# Altium integrated library Altera APEX 20KE.IntLib: 235 symbols (part 3 of 49)
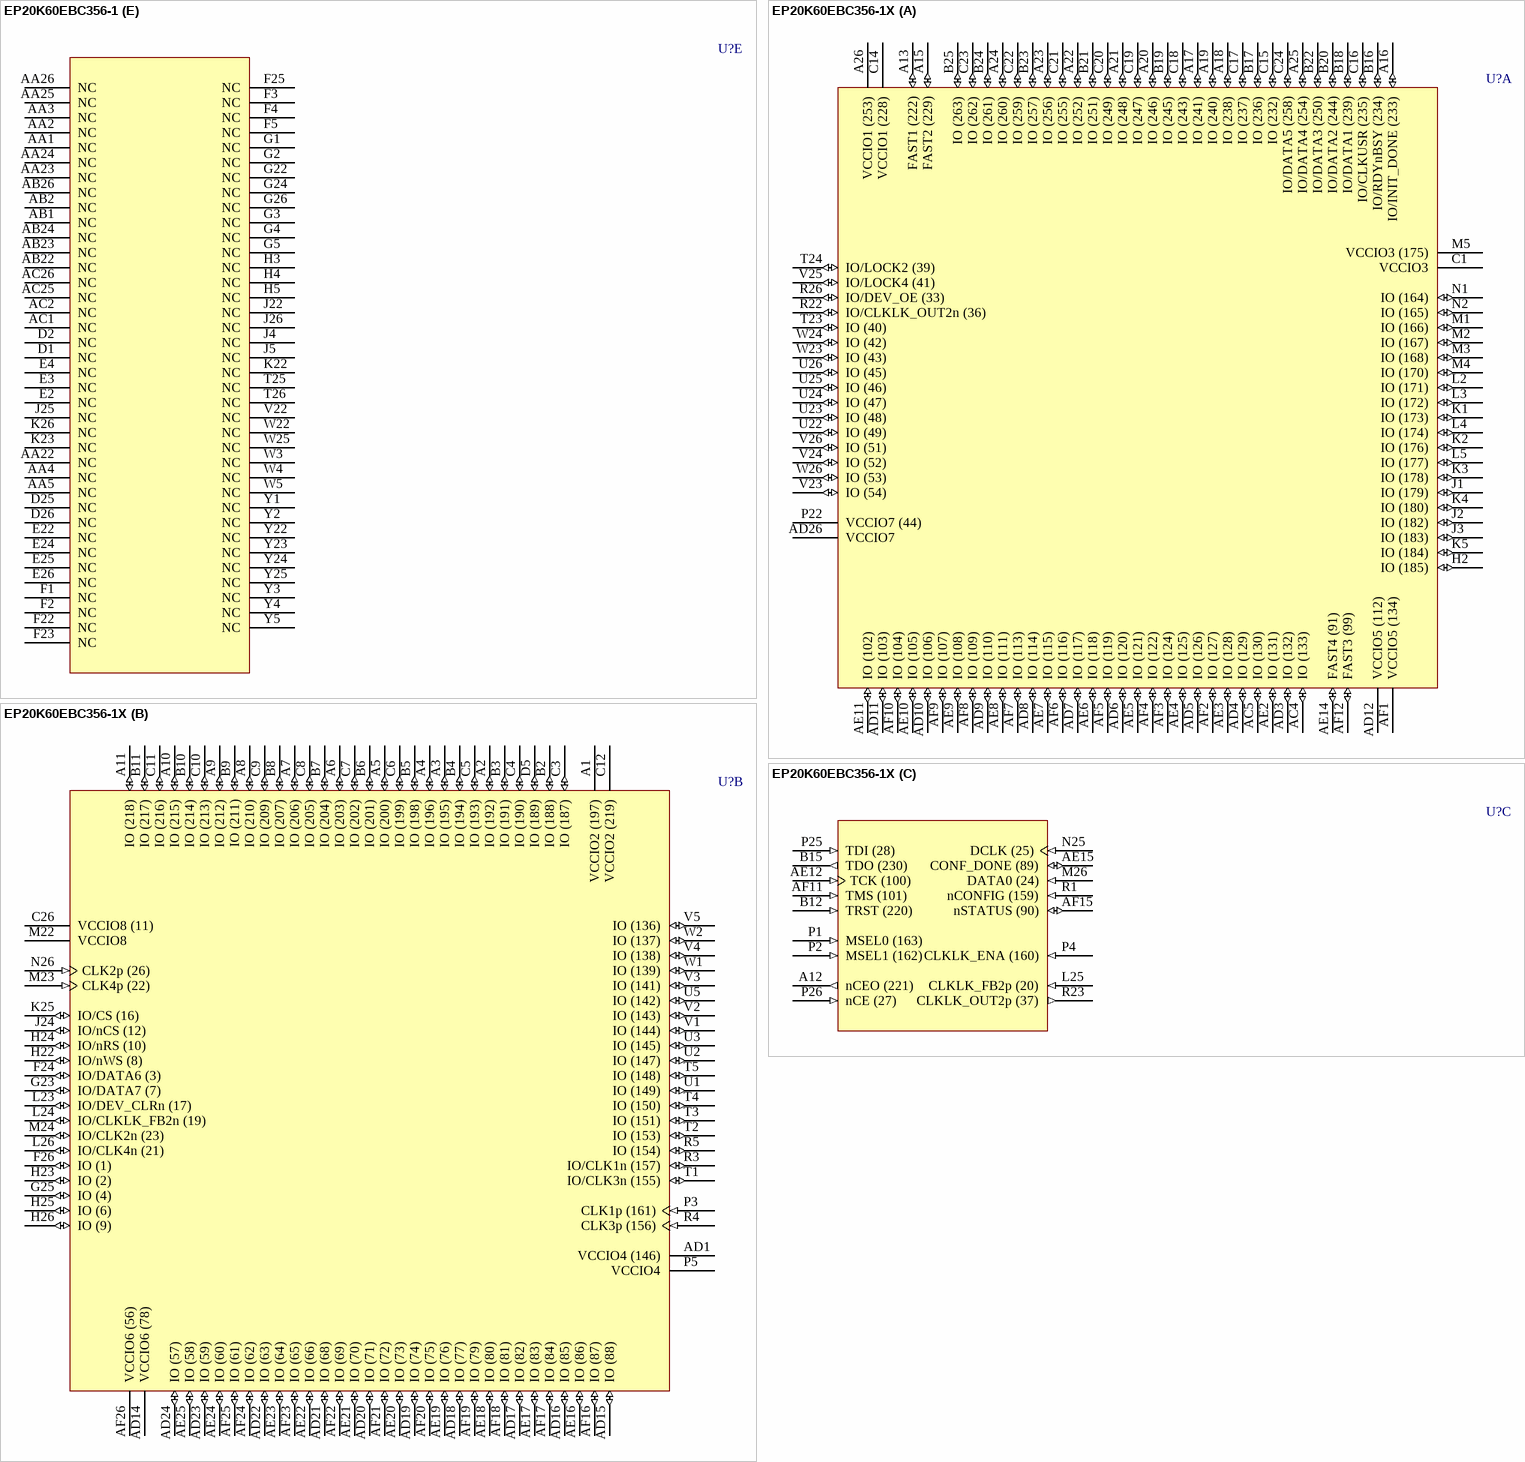
[diagram p401: symbols EP20K60EBC356-1 to EP20K60EBC356-1X]

## EP20K60EBC356-1
designator U?
APEX 20K60E PLD, 356-Pin BGA, Commercial Grade, Speed Grade 1; Published: 17-Jul-2002; LatestRevisionDate: 13-Apr-2006; LatestRevisionNote: IPC-7351 Footprint Added.; DatasheetVersion: Mar-2004; PackageVersion: ver14.2, Oct-2005; PackageReference: BGA356; Publisher: Altium Limited; PackageDescription: 356-Ball Ball Grid Array (BGA356); Supplier 1: Digi-Key; Supplier Part Number 1: EP20K60EBC356-1-ND; Code_JEDEC: MO-192-BAR-2; ComponentLink1Description: Manufacturer Link; ComponentLink1URL: http://www.altera.com/products/devices/apex/apx-index.html; ComponentLink2Description: Datasheet; ComponentLink2URL: http://www.altera.com/literature/ds/apex.pdf
footprint BGA356 (BGA, 356-Leads, Body 35x35mm, Pitch 1.27mm)
3D model EP20K60E-BGA356 (356-Ball Ball Grid Array (BGA356))
part A pins: A13 FAST1 (222) (io), A15 FAST2 (229) (io), A16 IO/INIT_DONE (233) (io), A17 IO (241) (io), A18 IO (238) (io), A19 IO (240) (io), A20 IO (246) (io), A21 IO (248) (io), A22 IO (252) (io), A23 IO (256) (io), A24 IO (260) (io), A25 IO/DATA4 (254) (io), A26 VCCIO1 (253) (power), AC4 IO (133) (io), AC5 IO (130) (io), AD3 IO (132) (io), AD4 IO (129) (io), AD5 IO (126) (io), AD6 IO (120) (io), AD7 IO (117) (io), AD8 IO (114) (io), AD9 IO (110) (io), AD10 IO (106) (io), AD11 IO (103) (io), AD12 VCCIO5 (112) (power), AD26 VCCIO7 (power), AE2 IO (131) (io), AE3 IO (128) (io), AE4 IO (125) (io), AE5 IO (121) (io), AE6 IO (118) (io), AE7 IO (115) (io), AE8 IO (111) (io), AE9 IO (108) (io), AE10 IO (105) (io), AE11 IO (102) (io), AE14 FAST4 (91) (io), AF1 VCCIO5 (134) (power), AF2 IO (127) (io), AF3 IO (124) (io), AF4 IO (122) (io), AF5 IO (119) (io), AF6 IO (116) (io), AF7 IO (113) (io), AF8 IO (109) (io), AF9 IO (107) (io), AF10 IO (104) (io), AF12 FAST3 (99) (io), B16 IO/RDYnBSY (234) (io), B17 IO (236) (io), B18 IO/DATA1 (239) (io), B19 IO (245) (io), B20 IO/DATA2 (244) (io), B21 IO (251) (io), B22 IO/DATA3 (250) (io), B23 IO (257) (io), B24 IO (261) (io), B25 IO (263) (io), C1 VCCIO3 (power), C14 VCCIO1 (228) (power), C15 IO (232) (io), C16 IO/CLKUSR (235) (io), C17 IO (237) (io), C18 IO (243) (io), C19 IO (247) (io), C20 IO (249) (io), C21 IO (255) (io), C22 IO (259) (io), C23 IO (262) (io), C24 IO/DATA5 (258) (io), H2 IO (185) (io), J1 IO (179) (io), J2 IO (182) (io), J3 IO (183) (io), K1 IO (173) (io), K2 IO (176) (io), K3 IO (178) (io), K4 IO (180) (io), K5 IO (184) (io), L2 IO (171) (io), L3 IO (172) (io), L4 IO (174) (io), L5 IO (177) (io), M1 IO (166) (io), M2 IO (167) (io), M3 IO (168) (io), M4 IO (170) (io), M5 VCCIO3 (175) (power), N1 IO (164) (io), N2 IO (165) (io), P22 VCCIO7 (44) (power), R22 IO/CLKLK_OUT2n (36) (io), R26 IO/DEV_OE (33) (io), T23 IO (40) (io), T24 IO/LOCK2 (39) (io), U22 IO (49) (io), U23 IO (48) (io), U24 IO (47) (io), U25 IO (46) (io), U26 IO (45) (io), V23 IO (54) (io), V24 IO (52) (io), V25 IO/LOCK4 (41) (io), V26 IO (51) (io), W23 IO (43) (io), W24 IO (42) (io), W26 IO (53) (io)
part B pins: A1 VCCIO2 (197) (power), A2 IO (192) (io), A3 IO (195) (io), A4 IO (196) (io), A5 IO (200) (io), A6 IO (203) (io), A7 IO (206) (io), A8 IO (210) (io), A9 IO (212) (io), A10 IO (215) (io), A11 IO (218) (io), AD1 VCCIO4 (146) (power), AD14 VCCIO6 (78) (power), AD15 IO (88) (io), AD16 IO (85) (io), AD17 IO (82) (io), AD18 IO (77) (io), AD19 IO (74) (io), AD20 IO (71) (io), AD21 IO (68) (io), AD22 IO (63) (io), AD23 IO (59) (io), AD24 IO (57) (io), AE16 IO (86) (io), AE17 IO (83) (io), AE18 IO (80) (io), AE19 IO (76) (io), AE20 IO (73) (io), AE21 IO (70) (io), AE22 IO (66) (io), AE23 IO (64) (io), AE24 IO (60) (io), AE25 IO (58) (io), AF16 IO (87) (io), AF17 IO (84) (io), AF18 IO (81) (io), AF19 IO (79) (io), AF20 IO (75) (io), AF21 IO (72) (io), AF22 IO (69) (io), AF23 IO (65) (io), AF24 IO (62) (io), AF25 IO (61) (io), AF26 VCCIO6 (56) (power), B2 IO (188) (io), B3 IO (191) (io), B4 IO (194) (io), B5 IO (198) (io), B6 IO (201) (io), B7 IO (204) (io), B8 IO (207) (io), B9 IO (211) (io), B10 IO (214) (io), B11 IO (217) (io), C3 IO (187) (io), C4 IO (190) (io), C5 IO (193) (io), C6 IO (199) (io), C7 IO (202) (io), C8 IO (205) (io), C9 IO (209) (io), C10 IO (213) (io), C11 IO (216) (io), C12 VCCIO2 (219) (power), C26 VCCIO8 (11) (power), D5 IO (189) (io), F24 IO/DATA6 (3) (io), F26 IO (1) (io), G23 IO/DATA7 (7) (io), G25 IO (4) (io), H22 IO/nWS (8) (io), H23 IO (2) (io), H24 IO/nRS (10) (io), H25 IO (6) (io), H26 IO (9) (io), J24 IO/nCS (12) (io), K25 IO/CS (16) (io), L23 IO/DEV_CLRn (17) (io), L24 IO/CLKLK_FB2n (19) (io), L26 IO/CLK4n (21) (io), M22 VCCIO8 (power), M23 CLK4p (22) (in), M24 IO/CLK2n (23) (io), N26 CLK2p (26) (in), P3 CLK1p (161) (in), P5 VCCIO4 (power), R3 IO/CLK1n (157) (io), R4 CLK3p (156) (in), R5 IO (154) (io), T1 IO/CLK3n (155) (io), T2 IO (153) (io), T3 IO (151) (io), T4 IO (150) (io), T5 IO (148) (io), U1 IO (149) (io), U2 IO (147) (io), U3 IO (145) (io), U5 IO (142) (io), V1 IO (144) (io), V2 IO (143) (io), V3 IO (141) (io), V4 IO (138) (io), V5 IO (136) (io), W1 IO (139) (io), W2 IO (137) (io)
part C pins: A12 nCEO (221) (out), AE12 TCK (100) (in), AE15 CONF_DONE (89) (io), AF11 TMS (101) (in), AF15 nSTATUS (90) (io), B12 TRST (220) (in), B15 TDO (230) (out), L25 CLKLK_FB2p (20) (in), M26 DATA0 (24) (in), N25 DCLK (25) (in), P1 MSEL0 (163) (in), P2 MSEL1 (162) (in), P4 CLKLK_ENA (160) (in), P25 TDI (28) (in), P26 nCE (27) (in), R1 nCONFIG (159) (in), R23 CLKLK_OUT2p (37) (out)
part D pins: A14 VCCINT (power), AB3 VCCINT (power), AB4 GND (power), AB5 GND (power), AB25 VCCINT (power), AC3 GND (power), AC22 GND (power), AC23 GND (power), AC24 GND (power), AD2 GND (power), AD13 GND (power), AD25 GND (power), AE1 GND (power), AE13 GND (power), AE26 GND (power), AF13 VCCINT (power), AF14 VCCINT (power), B1 GND (power), B13 GND (power), B14 VCCINT (power), B26 GND (power), C2 GND (power), C13 GND (power), C25 GND (power), D3 GND (power), D4 GND (power), D22 GND (power), D23 GND (power), D24 GND (power), E1 VCCINT (power), E5 GND (power), E23 VCCINT (power), H1 VCCINT (power), J23 VCCINT (power), K24 VCC_CKLK4 (13) (power), L1 VCCINT (power), L22 GND_CKLK4 (14/15) (power), M25 VCCINT (power), N3 GND (power), N4 GND (power), N5 GND (power), N22 GND (power), N23 GND (power), N24 GND (power), P23 VCC_CKLK2 (32) (power), P24 GND_CKLK2 (30/31) (power), R2 VCCINT (power), R24 GND_CKOUT2 (35) (power), R25 VCC_CKOUT2 (34) (power), T22 VCCINT (power), U4 VCCINT (power), Y26 VCCINT (power)
part E pins: AA1 NC, AA2 NC, AA3 NC, AA4 NC, AA5 NC, AA22 NC, AA23 NC, AA24 NC, AA25 NC, AA26 NC, AB1 NC, AB2 NC, AB22 NC, AB23 NC, AB24 NC, AB26 NC, AC1 NC, AC2 NC, AC25 NC, AC26 NC, D1 NC, D2 NC, D25 NC, D26 NC, E2 NC, E3 NC, E4 NC, E22 NC, E24 NC, E25 NC, E26 NC, F1 NC, F2 NC, F3 NC, F4 NC, F5 NC, F22 NC, F23 NC, F25 NC, G1 NC, G2 NC, G3 NC, G4 NC, G5 NC, G22 NC, G24 NC, G26 NC, H3 NC, H4 NC, H5 NC, J4 NC, J5 NC, J22 NC, J25 NC, J26 NC, K22 NC, K23 NC, K26 NC, T25 NC, T26 NC, V22 NC, W3 NC, W4 NC, W5 NC, W22 NC, W25 NC, Y1 NC, Y2 NC, Y3 NC, Y4 NC, Y5 NC, Y22 NC, Y23 NC, Y24 NC, Y25 NC

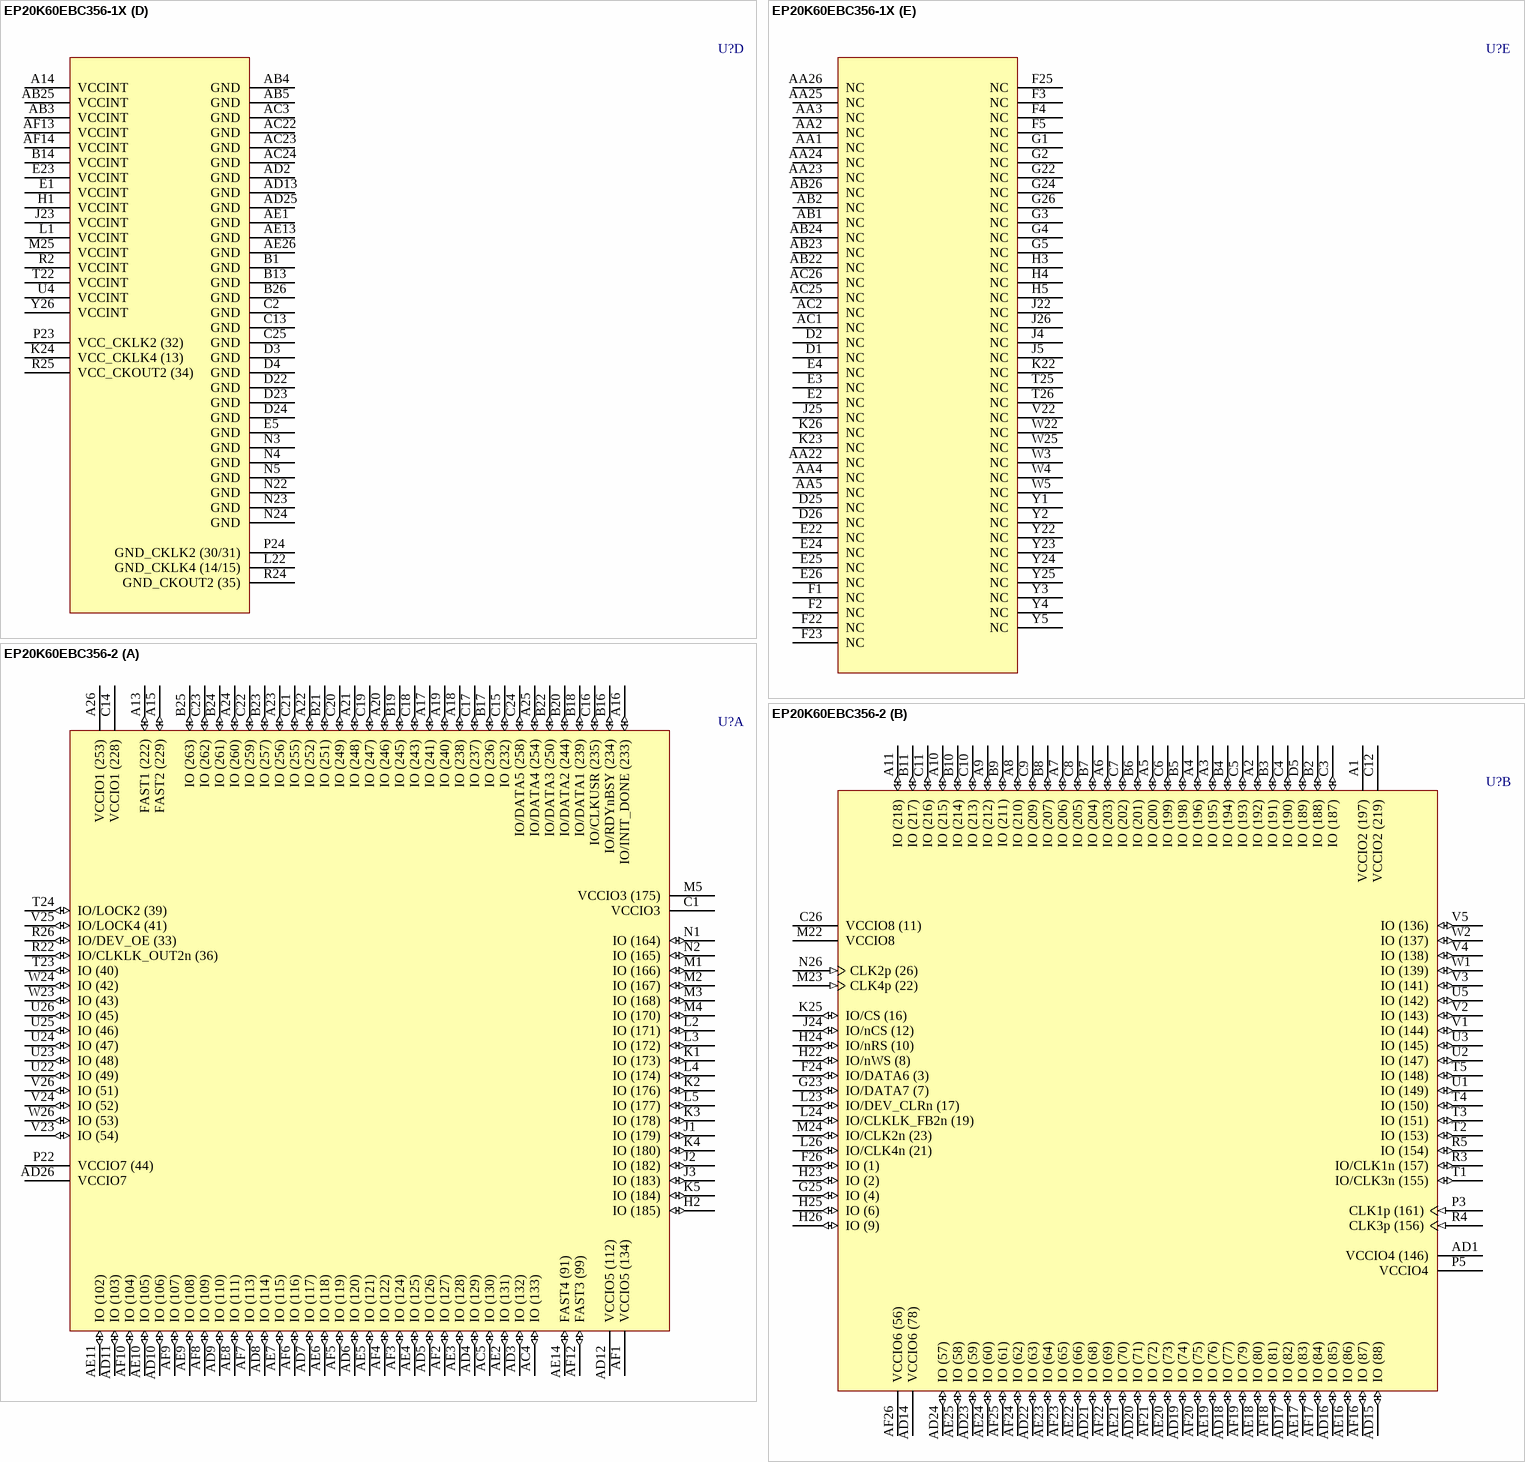
[diagram p27: symbols EP20K60EBC356-1X to EP20K60EBC356-2]

## EP20K60EBC356-1X
designator U?
APEX 20K60E PLD with PLLs and LVDS, 356-Pin BGA, Commercial Grade, Speed Grade 1; Published: 17-Jul-2002; LatestRevisionDate: 13-Apr-2006; LatestRevisionNote: IPC-7351 Footprint Added.; DatasheetVersion: Mar-2004; PackageVersion: ver14.2, Oct-2005; PackageReference: BGA356; Publisher: Altium Limited; PackageDescription: 356-Ball Ball Grid Array (BGA356); Code_JEDEC: MO-192-BAR-2; ComponentLink1Description: Manufacturer Link; ComponentLink1URL: http://www.altera.com/products/devices/apex/apx-index.html; ComponentLink2Description: Datasheet; ComponentLink2URL: http://www.altera.com/literature/ds/apex.pdf
footprint BGA356 (BGA, 356-Leads, Body 35x35mm, Pitch 1.27mm)
3D model EP20K60E-BGA356 (356-Ball Ball Grid Array (BGA356))
part A pins: A13 FAST1 (222) (io), A15 FAST2 (229) (io), A16 IO/INIT_DONE (233) (io), A17 IO (241) (io), A18 IO (238) (io), A19 IO (240) (io), A20 IO (246) (io), A21 IO (248) (io), A22 IO (252) (io), A23 IO (256) (io), A24 IO (260) (io), A25 IO/DATA4 (254) (io), A26 VCCIO1 (253) (power), AC4 IO (133) (io), AC5 IO (130) (io), AD3 IO (132) (io), AD4 IO (129) (io), AD5 IO (126) (io), AD6 IO (120) (io), AD7 IO (117) (io), AD8 IO (114) (io), AD9 IO (110) (io), AD10 IO (106) (io), AD11 IO (103) (io), AD12 VCCIO5 (112) (power), AD26 VCCIO7 (power), AE2 IO (131) (io), AE3 IO (128) (io), AE4 IO (125) (io), AE5 IO (121) (io), AE6 IO (118) (io), AE7 IO (115) (io), AE8 IO (111) (io), AE9 IO (108) (io), AE10 IO (105) (io), AE11 IO (102) (io), AE14 FAST4 (91) (io), AF1 VCCIO5 (134) (power), AF2 IO (127) (io), AF3 IO (124) (io), AF4 IO (122) (io), AF5 IO (119) (io), AF6 IO (116) (io), AF7 IO (113) (io), AF8 IO (109) (io), AF9 IO (107) (io), AF10 IO (104) (io), AF12 FAST3 (99) (io), B16 IO/RDYnBSY (234) (io), B17 IO (236) (io), B18 IO/DATA1 (239) (io), B19 IO (245) (io), B20 IO/DATA2 (244) (io), B21 IO (251) (io), B22 IO/DATA3 (250) (io), B23 IO (257) (io), B24 IO (261) (io), B25 IO (263) (io), C1 VCCIO3 (power), C14 VCCIO1 (228) (power), C15 IO (232) (io), C16 IO/CLKUSR (235) (io), C17 IO (237) (io), C18 IO (243) (io), C19 IO (247) (io), C20 IO (249) (io), C21 IO (255) (io), C22 IO (259) (io), C23 IO (262) (io), C24 IO/DATA5 (258) (io), H2 IO (185) (io), J1 IO (179) (io), J2 IO (182) (io), J3 IO (183) (io), K1 IO (173) (io), K2 IO (176) (io), K3 IO (178) (io), K4 IO (180) (io), K5 IO (184) (io), L2 IO (171) (io), L3 IO (172) (io), L4 IO (174) (io), L5 IO (177) (io), M1 IO (166) (io), M2 IO (167) (io), M3 IO (168) (io), M4 IO (170) (io), M5 VCCIO3 (175) (power), N1 IO (164) (io), N2 IO (165) (io), P22 VCCIO7 (44) (power), R22 IO/CLKLK_OUT2n (36) (io), R26 IO/DEV_OE (33) (io), T23 IO (40) (io), T24 IO/LOCK2 (39) (io), U22 IO (49) (io), U23 IO (48) (io), U24 IO (47) (io), U25 IO (46) (io), U26 IO (45) (io), V23 IO (54) (io), V24 IO (52) (io), V25 IO/LOCK4 (41) (io), V26 IO (51) (io), W23 IO (43) (io), W24 IO (42) (io), W26 IO (53) (io)
part B pins: A1 VCCIO2 (197) (power), A2 IO (192) (io), A3 IO (195) (io), A4 IO (196) (io), A5 IO (200) (io), A6 IO (203) (io), A7 IO (206) (io), A8 IO (210) (io), A9 IO (212) (io), A10 IO (215) (io), A11 IO (218) (io), AD1 VCCIO4 (146) (power), AD14 VCCIO6 (78) (power), AD15 IO (88) (io), AD16 IO (85) (io), AD17 IO (82) (io), AD18 IO (77) (io), AD19 IO (74) (io), AD20 IO (71) (io), AD21 IO (68) (io), AD22 IO (63) (io), AD23 IO (59) (io), AD24 IO (57) (io), AE16 IO (86) (io), AE17 IO (83) (io), AE18 IO (80) (io), AE19 IO (76) (io), AE20 IO (73) (io), AE21 IO (70) (io), AE22 IO (66) (io), AE23 IO (64) (io), AE24 IO (60) (io), AE25 IO (58) (io), AF16 IO (87) (io), AF17 IO (84) (io), AF18 IO (81) (io), AF19 IO (79) (io), AF20 IO (75) (io), AF21 IO (72) (io), AF22 IO (69) (io), AF23 IO (65) (io), AF24 IO (62) (io), AF25 IO (61) (io), AF26 VCCIO6 (56) (power), B2 IO (188) (io), B3 IO (191) (io), B4 IO (194) (io), B5 IO (198) (io), B6 IO (201) (io), B7 IO (204) (io), B8 IO (207) (io), B9 IO (211) (io), B10 IO (214) (io), B11 IO (217) (io), C3 IO (187) (io), C4 IO (190) (io), C5 IO (193) (io), C6 IO (199) (io), C7 IO (202) (io), C8 IO (205) (io), C9 IO (209) (io), C10 IO (213) (io), C11 IO (216) (io), C12 VCCIO2 (219) (power), C26 VCCIO8 (11) (power), D5 IO (189) (io), F24 IO/DATA6 (3) (io), F26 IO (1) (io), G23 IO/DATA7 (7) (io), G25 IO (4) (io), H22 IO/nWS (8) (io), H23 IO (2) (io), H24 IO/nRS (10) (io), H25 IO (6) (io), H26 IO (9) (io), J24 IO/nCS (12) (io), K25 IO/CS (16) (io), L23 IO/DEV_CLRn (17) (io), L24 IO/CLKLK_FB2n (19) (io), L26 IO/CLK4n (21) (io), M22 VCCIO8 (power), M23 CLK4p (22) (in), M24 IO/CLK2n (23) (io), N26 CLK2p (26) (in), P3 CLK1p (161) (in), P5 VCCIO4 (power), R3 IO/CLK1n (157) (io), R4 CLK3p (156) (in), R5 IO (154) (io), T1 IO/CLK3n (155) (io), T2 IO (153) (io), T3 IO (151) (io), T4 IO (150) (io), T5 IO (148) (io), U1 IO (149) (io), U2 IO (147) (io), U3 IO (145) (io), U5 IO (142) (io), V1 IO (144) (io), V2 IO (143) (io), V3 IO (141) (io), V4 IO (138) (io), V5 IO (136) (io), W1 IO (139) (io), W2 IO (137) (io)
part C pins: A12 nCEO (221) (out), AE12 TCK (100) (in), AE15 CONF_DONE (89) (io), AF11 TMS (101) (in), AF15 nSTATUS (90) (io), B12 TRST (220) (in), B15 TDO (230) (out), L25 CLKLK_FB2p (20) (in), M26 DATA0 (24) (in), N25 DCLK (25) (in), P1 MSEL0 (163) (in), P2 MSEL1 (162) (in), P4 CLKLK_ENA (160) (in), P25 TDI (28) (in), P26 nCE (27) (in), R1 nCONFIG (159) (in), R23 CLKLK_OUT2p (37) (out)
part D pins: A14 VCCINT (power), AB3 VCCINT (power), AB4 GND (power), AB5 GND (power), AB25 VCCINT (power), AC3 GND (power), AC22 GND (power), AC23 GND (power), AC24 GND (power), AD2 GND (power), AD13 GND (power), AD25 GND (power), AE1 GND (power), AE13 GND (power), AE26 GND (power), AF13 VCCINT (power), AF14 VCCINT (power), B1 GND (power), B13 GND (power), B14 VCCINT (power), B26 GND (power), C2 GND (power), C13 GND (power), C25 GND (power), D3 GND (power), D4 GND (power), D22 GND (power), D23 GND (power), D24 GND (power), E1 VCCINT (power), E5 GND (power), E23 VCCINT (power), H1 VCCINT (power), J23 VCCINT (power), K24 VCC_CKLK4 (13) (power), L1 VCCINT (power), L22 GND_CKLK4 (14/15) (power), M25 VCCINT (power), N3 GND (power), N4 GND (power), N5 GND (power), N22 GND (power), N23 GND (power), N24 GND (power), P23 VCC_CKLK2 (32) (power), P24 GND_CKLK2 (30/31) (power), R2 VCCINT (power), R24 GND_CKOUT2 (35) (power), R25 VCC_CKOUT2 (34) (power), T22 VCCINT (power), U4 VCCINT (power), Y26 VCCINT (power)
part E pins: AA1 NC, AA2 NC, AA3 NC, AA4 NC, AA5 NC, AA22 NC, AA23 NC, AA24 NC, AA25 NC, AA26 NC, AB1 NC, AB2 NC, AB22 NC, AB23 NC, AB24 NC, AB26 NC, AC1 NC, AC2 NC, AC25 NC, AC26 NC, D1 NC, D2 NC, D25 NC, D26 NC, E2 NC, E3 NC, E4 NC, E22 NC, E24 NC, E25 NC, E26 NC, F1 NC, F2 NC, F3 NC, F4 NC, F5 NC, F22 NC, F23 NC, F25 NC, G1 NC, G2 NC, G3 NC, G4 NC, G5 NC, G22 NC, G24 NC, G26 NC, H3 NC, H4 NC, H5 NC, J4 NC, J5 NC, J22 NC, J25 NC, J26 NC, K22 NC, K23 NC, K26 NC, T25 NC, T26 NC, V22 NC, W3 NC, W4 NC, W5 NC, W22 NC, W25 NC, Y1 NC, Y2 NC, Y3 NC, Y4 NC, Y5 NC, Y22 NC, Y23 NC, Y24 NC, Y25 NC

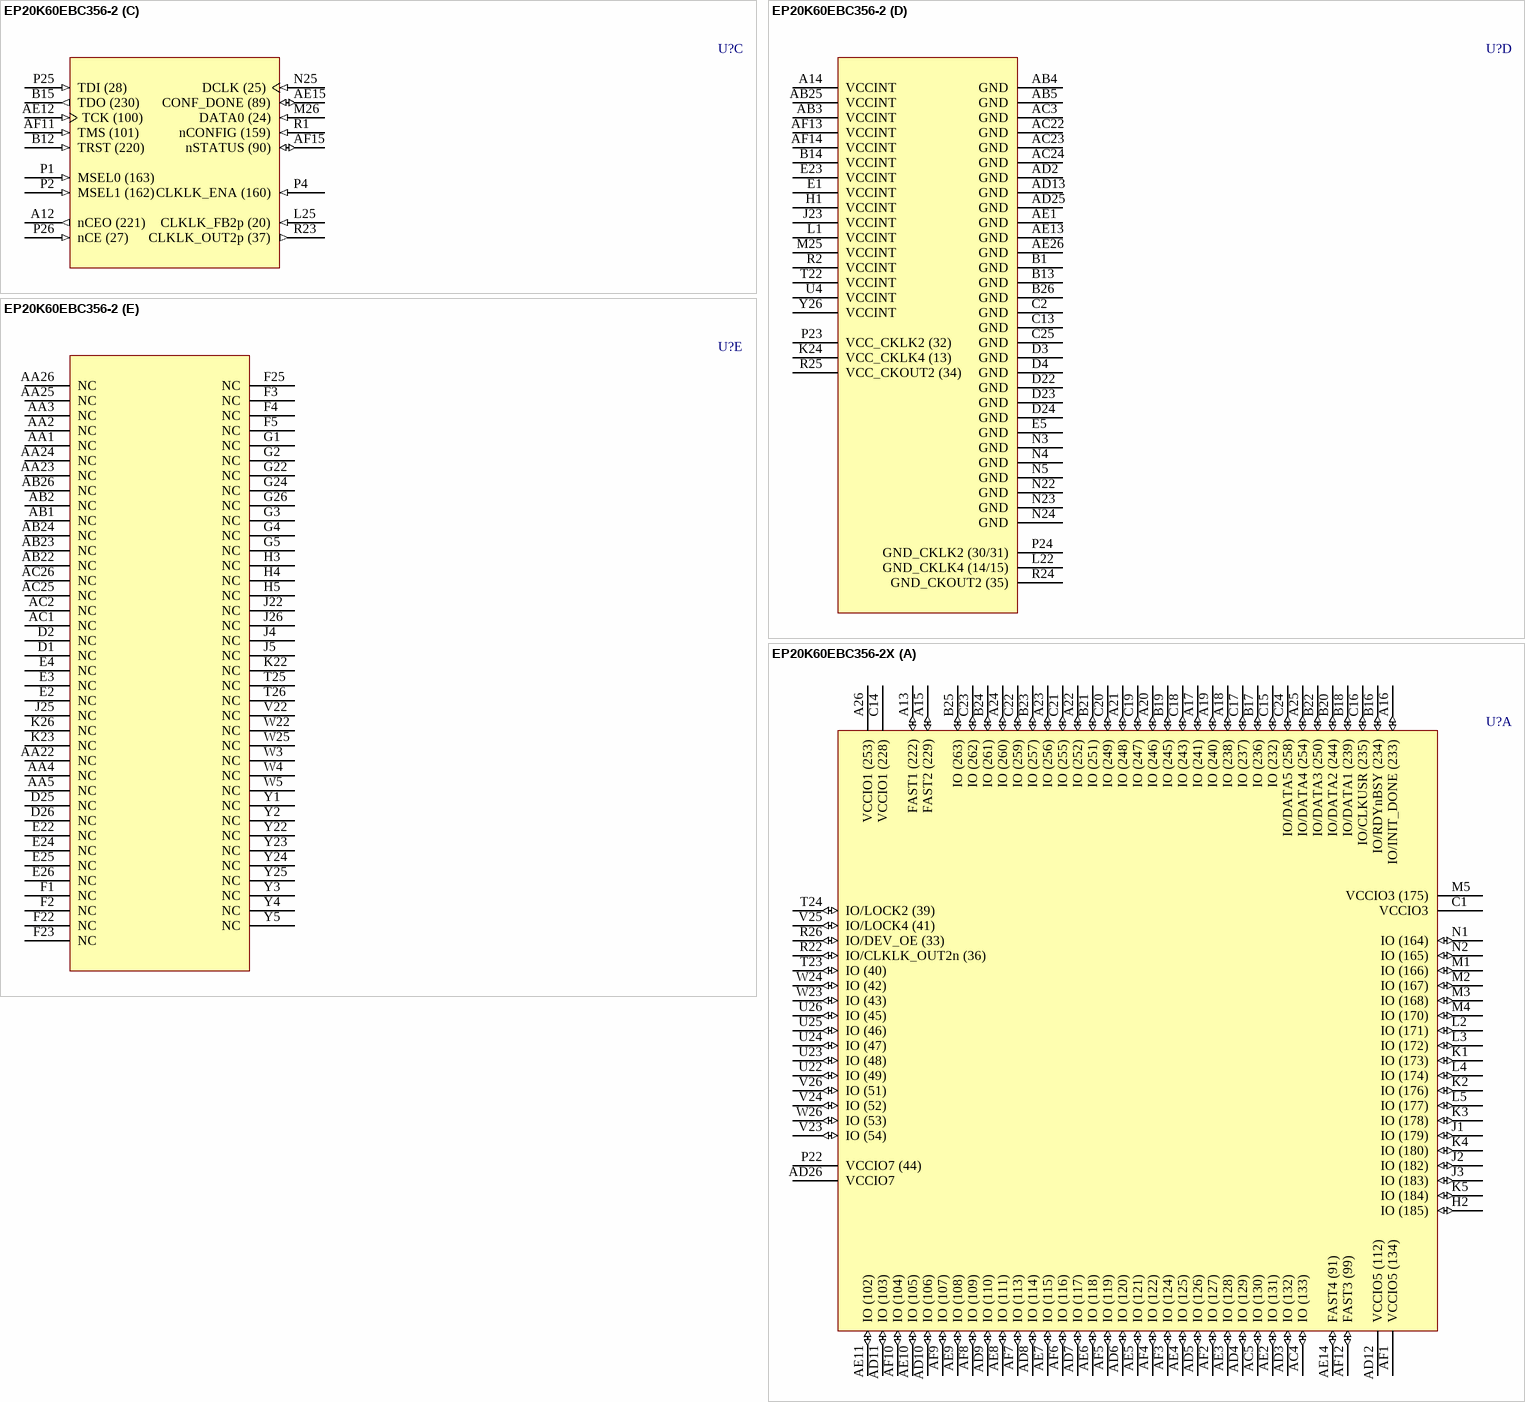
[diagram p28: symbols EP20K60EBC356-2 to EP20K60EBC356-2X]

## EP20K60EBC356-2
designator U?
APEX 20K60E PLD, 356-Pin BGA, Commercial Grade, Speed Grade 2; Published: 17-Jul-2002; LatestRevisionDate: 13-Apr-2006; LatestRevisionNote: IPC-7351 Footprint Added.; DatasheetVersion: Mar-2004; PackageVersion: ver14.2, Oct-2005; PackageReference: BGA356; Publisher: Altium Limited; PackageDescription: 356-Ball Ball Grid Array (BGA356); Code_JEDEC: MO-192-BAR-2; ComponentLink1Description: Manufacturer Link; ComponentLink1URL: http://www.altera.com/products/devices/apex/apx-index.html; ComponentLink2Description: Datasheet; ComponentLink2URL: http://www.altera.com/literature/ds/apex.pdf
footprint BGA356 (BGA, 356-Leads, Body 35x35mm, Pitch 1.27mm)
3D model EP20K60E-BGA356 (356-Ball Ball Grid Array (BGA356))
part A pins: A13 FAST1 (222) (io), A15 FAST2 (229) (io), A16 IO/INIT_DONE (233) (io), A17 IO (241) (io), A18 IO (238) (io), A19 IO (240) (io), A20 IO (246) (io), A21 IO (248) (io), A22 IO (252) (io), A23 IO (256) (io), A24 IO (260) (io), A25 IO/DATA4 (254) (io), A26 VCCIO1 (253) (power), AC4 IO (133) (io), AC5 IO (130) (io), AD3 IO (132) (io), AD4 IO (129) (io), AD5 IO (126) (io), AD6 IO (120) (io), AD7 IO (117) (io), AD8 IO (114) (io), AD9 IO (110) (io), AD10 IO (106) (io), AD11 IO (103) (io), AD12 VCCIO5 (112) (power), AD26 VCCIO7 (power), AE2 IO (131) (io), AE3 IO (128) (io), AE4 IO (125) (io), AE5 IO (121) (io), AE6 IO (118) (io), AE7 IO (115) (io), AE8 IO (111) (io), AE9 IO (108) (io), AE10 IO (105) (io), AE11 IO (102) (io), AE14 FAST4 (91) (io), AF1 VCCIO5 (134) (power), AF2 IO (127) (io), AF3 IO (124) (io), AF4 IO (122) (io), AF5 IO (119) (io), AF6 IO (116) (io), AF7 IO (113) (io), AF8 IO (109) (io), AF9 IO (107) (io), AF10 IO (104) (io), AF12 FAST3 (99) (io), B16 IO/RDYnBSY (234) (io), B17 IO (236) (io), B18 IO/DATA1 (239) (io), B19 IO (245) (io), B20 IO/DATA2 (244) (io), B21 IO (251) (io), B22 IO/DATA3 (250) (io), B23 IO (257) (io), B24 IO (261) (io), B25 IO (263) (io), C1 VCCIO3 (power), C14 VCCIO1 (228) (power), C15 IO (232) (io), C16 IO/CLKUSR (235) (io), C17 IO (237) (io), C18 IO (243) (io), C19 IO (247) (io), C20 IO (249) (io), C21 IO (255) (io), C22 IO (259) (io), C23 IO (262) (io), C24 IO/DATA5 (258) (io), H2 IO (185) (io), J1 IO (179) (io), J2 IO (182) (io), J3 IO (183) (io), K1 IO (173) (io), K2 IO (176) (io), K3 IO (178) (io), K4 IO (180) (io), K5 IO (184) (io), L2 IO (171) (io), L3 IO (172) (io), L4 IO (174) (io), L5 IO (177) (io), M1 IO (166) (io), M2 IO (167) (io), M3 IO (168) (io), M4 IO (170) (io), M5 VCCIO3 (175) (power), N1 IO (164) (io), N2 IO (165) (io), P22 VCCIO7 (44) (power), R22 IO/CLKLK_OUT2n (36) (io), R26 IO/DEV_OE (33) (io), T23 IO (40) (io), T24 IO/LOCK2 (39) (io), U22 IO (49) (io), U23 IO (48) (io), U24 IO (47) (io), U25 IO (46) (io), U26 IO (45) (io), V23 IO (54) (io), V24 IO (52) (io), V25 IO/LOCK4 (41) (io), V26 IO (51) (io), W23 IO (43) (io), W24 IO (42) (io), W26 IO (53) (io)
part B pins: A1 VCCIO2 (197) (power), A2 IO (192) (io), A3 IO (195) (io), A4 IO (196) (io), A5 IO (200) (io), A6 IO (203) (io), A7 IO (206) (io), A8 IO (210) (io), A9 IO (212) (io), A10 IO (215) (io), A11 IO (218) (io), AD1 VCCIO4 (146) (power), AD14 VCCIO6 (78) (power), AD15 IO (88) (io), AD16 IO (85) (io), AD17 IO (82) (io), AD18 IO (77) (io), AD19 IO (74) (io), AD20 IO (71) (io), AD21 IO (68) (io), AD22 IO (63) (io), AD23 IO (59) (io), AD24 IO (57) (io), AE16 IO (86) (io), AE17 IO (83) (io), AE18 IO (80) (io), AE19 IO (76) (io), AE20 IO (73) (io), AE21 IO (70) (io), AE22 IO (66) (io), AE23 IO (64) (io), AE24 IO (60) (io), AE25 IO (58) (io), AF16 IO (87) (io), AF17 IO (84) (io), AF18 IO (81) (io), AF19 IO (79) (io), AF20 IO (75) (io), AF21 IO (72) (io), AF22 IO (69) (io), AF23 IO (65) (io), AF24 IO (62) (io), AF25 IO (61) (io), AF26 VCCIO6 (56) (power), B2 IO (188) (io), B3 IO (191) (io), B4 IO (194) (io), B5 IO (198) (io), B6 IO (201) (io), B7 IO (204) (io), B8 IO (207) (io), B9 IO (211) (io), B10 IO (214) (io), B11 IO (217) (io), C3 IO (187) (io), C4 IO (190) (io), C5 IO (193) (io), C6 IO (199) (io), C7 IO (202) (io), C8 IO (205) (io), C9 IO (209) (io), C10 IO (213) (io), C11 IO (216) (io), C12 VCCIO2 (219) (power), C26 VCCIO8 (11) (power), D5 IO (189) (io), F24 IO/DATA6 (3) (io), F26 IO (1) (io), G23 IO/DATA7 (7) (io), G25 IO (4) (io), H22 IO/nWS (8) (io), H23 IO (2) (io), H24 IO/nRS (10) (io), H25 IO (6) (io), H26 IO (9) (io), J24 IO/nCS (12) (io), K25 IO/CS (16) (io), L23 IO/DEV_CLRn (17) (io), L24 IO/CLKLK_FB2n (19) (io), L26 IO/CLK4n (21) (io), M22 VCCIO8 (power), M23 CLK4p (22) (in), M24 IO/CLK2n (23) (io), N26 CLK2p (26) (in), P3 CLK1p (161) (in), P5 VCCIO4 (power), R3 IO/CLK1n (157) (io), R4 CLK3p (156) (in), R5 IO (154) (io), T1 IO/CLK3n (155) (io), T2 IO (153) (io), T3 IO (151) (io), T4 IO (150) (io), T5 IO (148) (io), U1 IO (149) (io), U2 IO (147) (io), U3 IO (145) (io), U5 IO (142) (io), V1 IO (144) (io), V2 IO (143) (io), V3 IO (141) (io), V4 IO (138) (io), V5 IO (136) (io), W1 IO (139) (io), W2 IO (137) (io)
part C pins: A12 nCEO (221) (out), AE12 TCK (100) (in), AE15 CONF_DONE (89) (io), AF11 TMS (101) (in), AF15 nSTATUS (90) (io), B12 TRST (220) (in), B15 TDO (230) (out), L25 CLKLK_FB2p (20) (in), M26 DATA0 (24) (in), N25 DCLK (25) (in), P1 MSEL0 (163) (in), P2 MSEL1 (162) (in), P4 CLKLK_ENA (160) (in), P25 TDI (28) (in), P26 nCE (27) (in), R1 nCONFIG (159) (in), R23 CLKLK_OUT2p (37) (out)
part D pins: A14 VCCINT (power), AB3 VCCINT (power), AB4 GND (power), AB5 GND (power), AB25 VCCINT (power), AC3 GND (power), AC22 GND (power), AC23 GND (power), AC24 GND (power), AD2 GND (power), AD13 GND (power), AD25 GND (power), AE1 GND (power), AE13 GND (power), AE26 GND (power), AF13 VCCINT (power), AF14 VCCINT (power), B1 GND (power), B13 GND (power), B14 VCCINT (power), B26 GND (power), C2 GND (power), C13 GND (power), C25 GND (power), D3 GND (power), D4 GND (power), D22 GND (power), D23 GND (power), D24 GND (power), E1 VCCINT (power), E5 GND (power), E23 VCCINT (power), H1 VCCINT (power), J23 VCCINT (power), K24 VCC_CKLK4 (13) (power), L1 VCCINT (power), L22 GND_CKLK4 (14/15) (power), M25 VCCINT (power), N3 GND (power), N4 GND (power), N5 GND (power), N22 GND (power), N23 GND (power), N24 GND (power), P23 VCC_CKLK2 (32) (power), P24 GND_CKLK2 (30/31) (power), R2 VCCINT (power), R24 GND_CKOUT2 (35) (power), R25 VCC_CKOUT2 (34) (power), T22 VCCINT (power), U4 VCCINT (power), Y26 VCCINT (power)
part E pins: AA1 NC, AA2 NC, AA3 NC, AA4 NC, AA5 NC, AA22 NC, AA23 NC, AA24 NC, AA25 NC, AA26 NC, AB1 NC, AB2 NC, AB22 NC, AB23 NC, AB24 NC, AB26 NC, AC1 NC, AC2 NC, AC25 NC, AC26 NC, D1 NC, D2 NC, D25 NC, D26 NC, E2 NC, E3 NC, E4 NC, E22 NC, E24 NC, E25 NC, E26 NC, F1 NC, F2 NC, F3 NC, F4 NC, F5 NC, F22 NC, F23 NC, F25 NC, G1 NC, G2 NC, G3 NC, G4 NC, G5 NC, G22 NC, G24 NC, G26 NC, H3 NC, H4 NC, H5 NC, J4 NC, J5 NC, J22 NC, J25 NC, J26 NC, K22 NC, K23 NC, K26 NC, T25 NC, T26 NC, V22 NC, W3 NC, W4 NC, W5 NC, W22 NC, W25 NC, Y1 NC, Y2 NC, Y3 NC, Y4 NC, Y5 NC, Y22 NC, Y23 NC, Y24 NC, Y25 NC

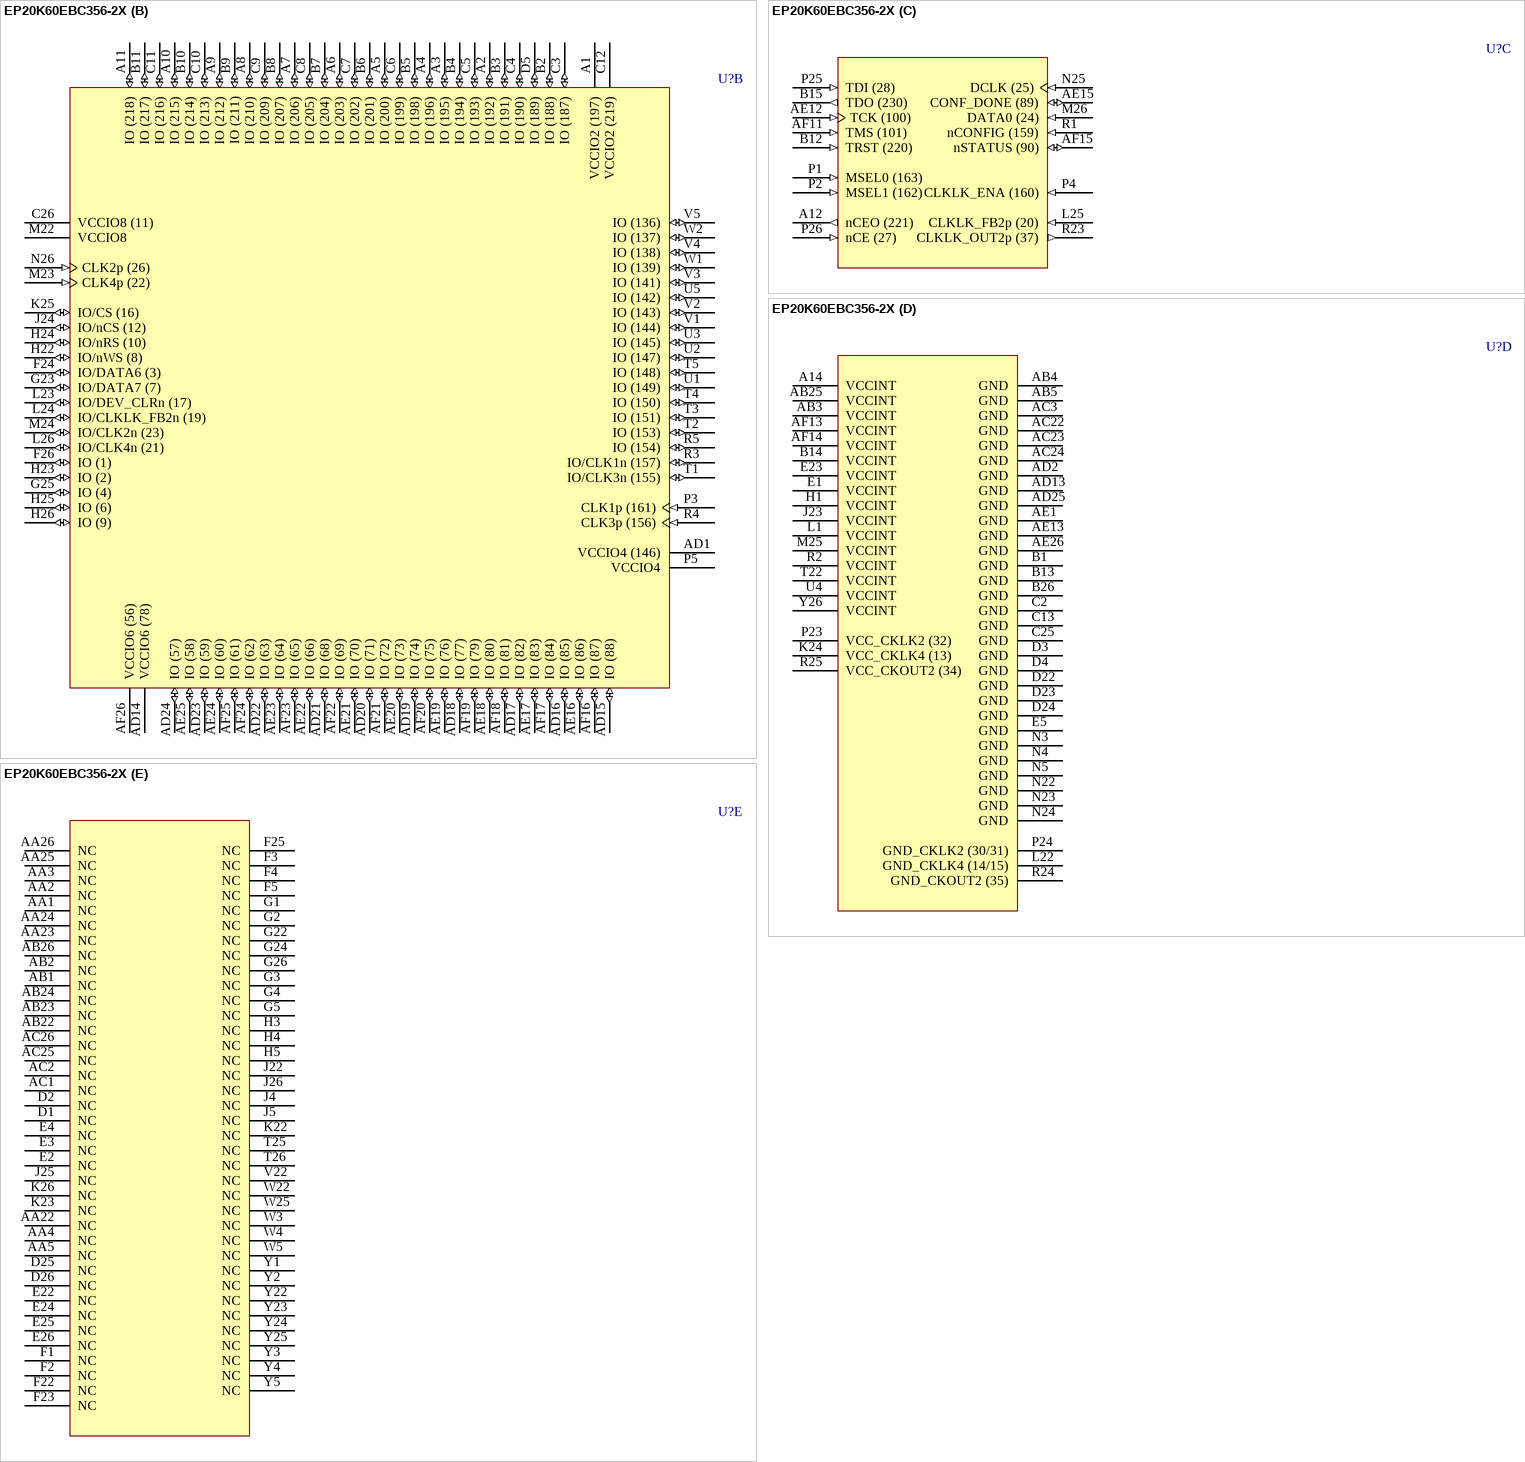
[diagram p29: symbol EP20K60EBC356-2X]

## EP20K60EBC356-2X
designator U?
APEX 20K60E PLD with PLLs and LVDS, 356-Pin BGA, Commercial Grade, Speed Grade 2; Published: 17-Jul-2002; LatestRevisionDate: 13-Apr-2006; LatestRevisionNote: IPC-7351 Footprint Added.; DatasheetVersion: Mar-2004; PackageVersion: ver14.2, Oct-2005; PackageReference: BGA356; Publisher: Altium Limited; PackageDescription: 356-Ball Ball Grid Array (BGA356); Code_JEDEC: MO-192-BAR-2; ComponentLink1Description: Manufacturer Link; ComponentLink1URL: http://www.altera.com/products/devices/apex/apx-index.html; ComponentLink2Description: Datasheet; ComponentLink2URL: http://www.altera.com/literature/ds/apex.pdf
footprint BGA356 (BGA, 356-Leads, Body 35x35mm, Pitch 1.27mm)
3D model EP20K60E-BGA356 (356-Ball Ball Grid Array (BGA356))
part A pins: A13 FAST1 (222) (io), A15 FAST2 (229) (io), A16 IO/INIT_DONE (233) (io), A17 IO (241) (io), A18 IO (238) (io), A19 IO (240) (io), A20 IO (246) (io), A21 IO (248) (io), A22 IO (252) (io), A23 IO (256) (io), A24 IO (260) (io), A25 IO/DATA4 (254) (io), A26 VCCIO1 (253) (power), AC4 IO (133) (io), AC5 IO (130) (io), AD3 IO (132) (io), AD4 IO (129) (io), AD5 IO (126) (io), AD6 IO (120) (io), AD7 IO (117) (io), AD8 IO (114) (io), AD9 IO (110) (io), AD10 IO (106) (io), AD11 IO (103) (io), AD12 VCCIO5 (112) (power), AD26 VCCIO7 (power), AE2 IO (131) (io), AE3 IO (128) (io), AE4 IO (125) (io), AE5 IO (121) (io), AE6 IO (118) (io), AE7 IO (115) (io), AE8 IO (111) (io), AE9 IO (108) (io), AE10 IO (105) (io), AE11 IO (102) (io), AE14 FAST4 (91) (io), AF1 VCCIO5 (134) (power), AF2 IO (127) (io), AF3 IO (124) (io), AF4 IO (122) (io), AF5 IO (119) (io), AF6 IO (116) (io), AF7 IO (113) (io), AF8 IO (109) (io), AF9 IO (107) (io), AF10 IO (104) (io), AF12 FAST3 (99) (io), B16 IO/RDYnBSY (234) (io), B17 IO (236) (io), B18 IO/DATA1 (239) (io), B19 IO (245) (io), B20 IO/DATA2 (244) (io), B21 IO (251) (io), B22 IO/DATA3 (250) (io), B23 IO (257) (io), B24 IO (261) (io), B25 IO (263) (io), C1 VCCIO3 (power), C14 VCCIO1 (228) (power), C15 IO (232) (io), C16 IO/CLKUSR (235) (io), C17 IO (237) (io), C18 IO (243) (io), C19 IO (247) (io), C20 IO (249) (io), C21 IO (255) (io), C22 IO (259) (io), C23 IO (262) (io), C24 IO/DATA5 (258) (io), H2 IO (185) (io), J1 IO (179) (io), J2 IO (182) (io), J3 IO (183) (io), K1 IO (173) (io), K2 IO (176) (io), K3 IO (178) (io), K4 IO (180) (io), K5 IO (184) (io), L2 IO (171) (io), L3 IO (172) (io), L4 IO (174) (io), L5 IO (177) (io), M1 IO (166) (io), M2 IO (167) (io), M3 IO (168) (io), M4 IO (170) (io), M5 VCCIO3 (175) (power), N1 IO (164) (io), N2 IO (165) (io), P22 VCCIO7 (44) (power), R22 IO/CLKLK_OUT2n (36) (io), R26 IO/DEV_OE (33) (io), T23 IO (40) (io), T24 IO/LOCK2 (39) (io), U22 IO (49) (io), U23 IO (48) (io), U24 IO (47) (io), U25 IO (46) (io), U26 IO (45) (io), V23 IO (54) (io), V24 IO (52) (io), V25 IO/LOCK4 (41) (io), V26 IO (51) (io), W23 IO (43) (io), W24 IO (42) (io), W26 IO (53) (io)
part B pins: A1 VCCIO2 (197) (power), A2 IO (192) (io), A3 IO (195) (io), A4 IO (196) (io), A5 IO (200) (io), A6 IO (203) (io), A7 IO (206) (io), A8 IO (210) (io), A9 IO (212) (io), A10 IO (215) (io), A11 IO (218) (io), AD1 VCCIO4 (146) (power), AD14 VCCIO6 (78) (power), AD15 IO (88) (io), AD16 IO (85) (io), AD17 IO (82) (io), AD18 IO (77) (io), AD19 IO (74) (io), AD20 IO (71) (io), AD21 IO (68) (io), AD22 IO (63) (io), AD23 IO (59) (io), AD24 IO (57) (io), AE16 IO (86) (io), AE17 IO (83) (io), AE18 IO (80) (io), AE19 IO (76) (io), AE20 IO (73) (io), AE21 IO (70) (io), AE22 IO (66) (io), AE23 IO (64) (io), AE24 IO (60) (io), AE25 IO (58) (io), AF16 IO (87) (io), AF17 IO (84) (io), AF18 IO (81) (io), AF19 IO (79) (io), AF20 IO (75) (io), AF21 IO (72) (io), AF22 IO (69) (io), AF23 IO (65) (io), AF24 IO (62) (io), AF25 IO (61) (io), AF26 VCCIO6 (56) (power), B2 IO (188) (io), B3 IO (191) (io), B4 IO (194) (io), B5 IO (198) (io), B6 IO (201) (io), B7 IO (204) (io), B8 IO (207) (io), B9 IO (211) (io), B10 IO (214) (io), B11 IO (217) (io), C3 IO (187) (io), C4 IO (190) (io), C5 IO (193) (io), C6 IO (199) (io), C7 IO (202) (io), C8 IO (205) (io), C9 IO (209) (io), C10 IO (213) (io), C11 IO (216) (io), C12 VCCIO2 (219) (power), C26 VCCIO8 (11) (power), D5 IO (189) (io), F24 IO/DATA6 (3) (io), F26 IO (1) (io), G23 IO/DATA7 (7) (io), G25 IO (4) (io), H22 IO/nWS (8) (io), H23 IO (2) (io), H24 IO/nRS (10) (io), H25 IO (6) (io), H26 IO (9) (io), J24 IO/nCS (12) (io), K25 IO/CS (16) (io), L23 IO/DEV_CLRn (17) (io), L24 IO/CLKLK_FB2n (19) (io), L26 IO/CLK4n (21) (io), M22 VCCIO8 (power), M23 CLK4p (22) (in), M24 IO/CLK2n (23) (io), N26 CLK2p (26) (in), P3 CLK1p (161) (in), P5 VCCIO4 (power), R3 IO/CLK1n (157) (io), R4 CLK3p (156) (in), R5 IO (154) (io), T1 IO/CLK3n (155) (io), T2 IO (153) (io), T3 IO (151) (io), T4 IO (150) (io), T5 IO (148) (io), U1 IO (149) (io), U2 IO (147) (io), U3 IO (145) (io), U5 IO (142) (io), V1 IO (144) (io), V2 IO (143) (io), V3 IO (141) (io), V4 IO (138) (io), V5 IO (136) (io), W1 IO (139) (io), W2 IO (137) (io)
part C pins: A12 nCEO (221) (out), AE12 TCK (100) (in), AE15 CONF_DONE (89) (io), AF11 TMS (101) (in), AF15 nSTATUS (90) (io), B12 TRST (220) (in), B15 TDO (230) (out), L25 CLKLK_FB2p (20) (in), M26 DATA0 (24) (in), N25 DCLK (25) (in), P1 MSEL0 (163) (in), P2 MSEL1 (162) (in), P4 CLKLK_ENA (160) (in), P25 TDI (28) (in), P26 nCE (27) (in), R1 nCONFIG (159) (in), R23 CLKLK_OUT2p (37) (out)
part D pins: A14 VCCINT (power), AB3 VCCINT (power), AB4 GND (power), AB5 GND (power), AB25 VCCINT (power), AC3 GND (power), AC22 GND (power), AC23 GND (power), AC24 GND (power), AD2 GND (power), AD13 GND (power), AD25 GND (power), AE1 GND (power), AE13 GND (power), AE26 GND (power), AF13 VCCINT (power), AF14 VCCINT (power), B1 GND (power), B13 GND (power), B14 VCCINT (power), B26 GND (power), C2 GND (power), C13 GND (power), C25 GND (power), D3 GND (power), D4 GND (power), D22 GND (power), D23 GND (power), D24 GND (power), E1 VCCINT (power), E5 GND (power), E23 VCCINT (power), H1 VCCINT (power), J23 VCCINT (power), K24 VCC_CKLK4 (13) (power), L1 VCCINT (power), L22 GND_CKLK4 (14/15) (power), M25 VCCINT (power), N3 GND (power), N4 GND (power), N5 GND (power), N22 GND (power), N23 GND (power), N24 GND (power), P23 VCC_CKLK2 (32) (power), P24 GND_CKLK2 (30/31) (power), R2 VCCINT (power), R24 GND_CKOUT2 (35) (power), R25 VCC_CKOUT2 (34) (power), T22 VCCINT (power), U4 VCCINT (power), Y26 VCCINT (power)
part E pins: AA1 NC, AA2 NC, AA3 NC, AA4 NC, AA5 NC, AA22 NC, AA23 NC, AA24 NC, AA25 NC, AA26 NC, AB1 NC, AB2 NC, AB22 NC, AB23 NC, AB24 NC, AB26 NC, AC1 NC, AC2 NC, AC25 NC, AC26 NC, D1 NC, D2 NC, D25 NC, D26 NC, E2 NC, E3 NC, E4 NC, E22 NC, E24 NC, E25 NC, E26 NC, F1 NC, F2 NC, F3 NC, F4 NC, F5 NC, F22 NC, F23 NC, F25 NC, G1 NC, G2 NC, G3 NC, G4 NC, G5 NC, G22 NC, G24 NC, G26 NC, H3 NC, H4 NC, H5 NC, J4 NC, J5 NC, J22 NC, J25 NC, J26 NC, K22 NC, K23 NC, K26 NC, T25 NC, T26 NC, V22 NC, W3 NC, W4 NC, W5 NC, W22 NC, W25 NC, Y1 NC, Y2 NC, Y3 NC, Y4 NC, Y5 NC, Y22 NC, Y23 NC, Y24 NC, Y25 NC

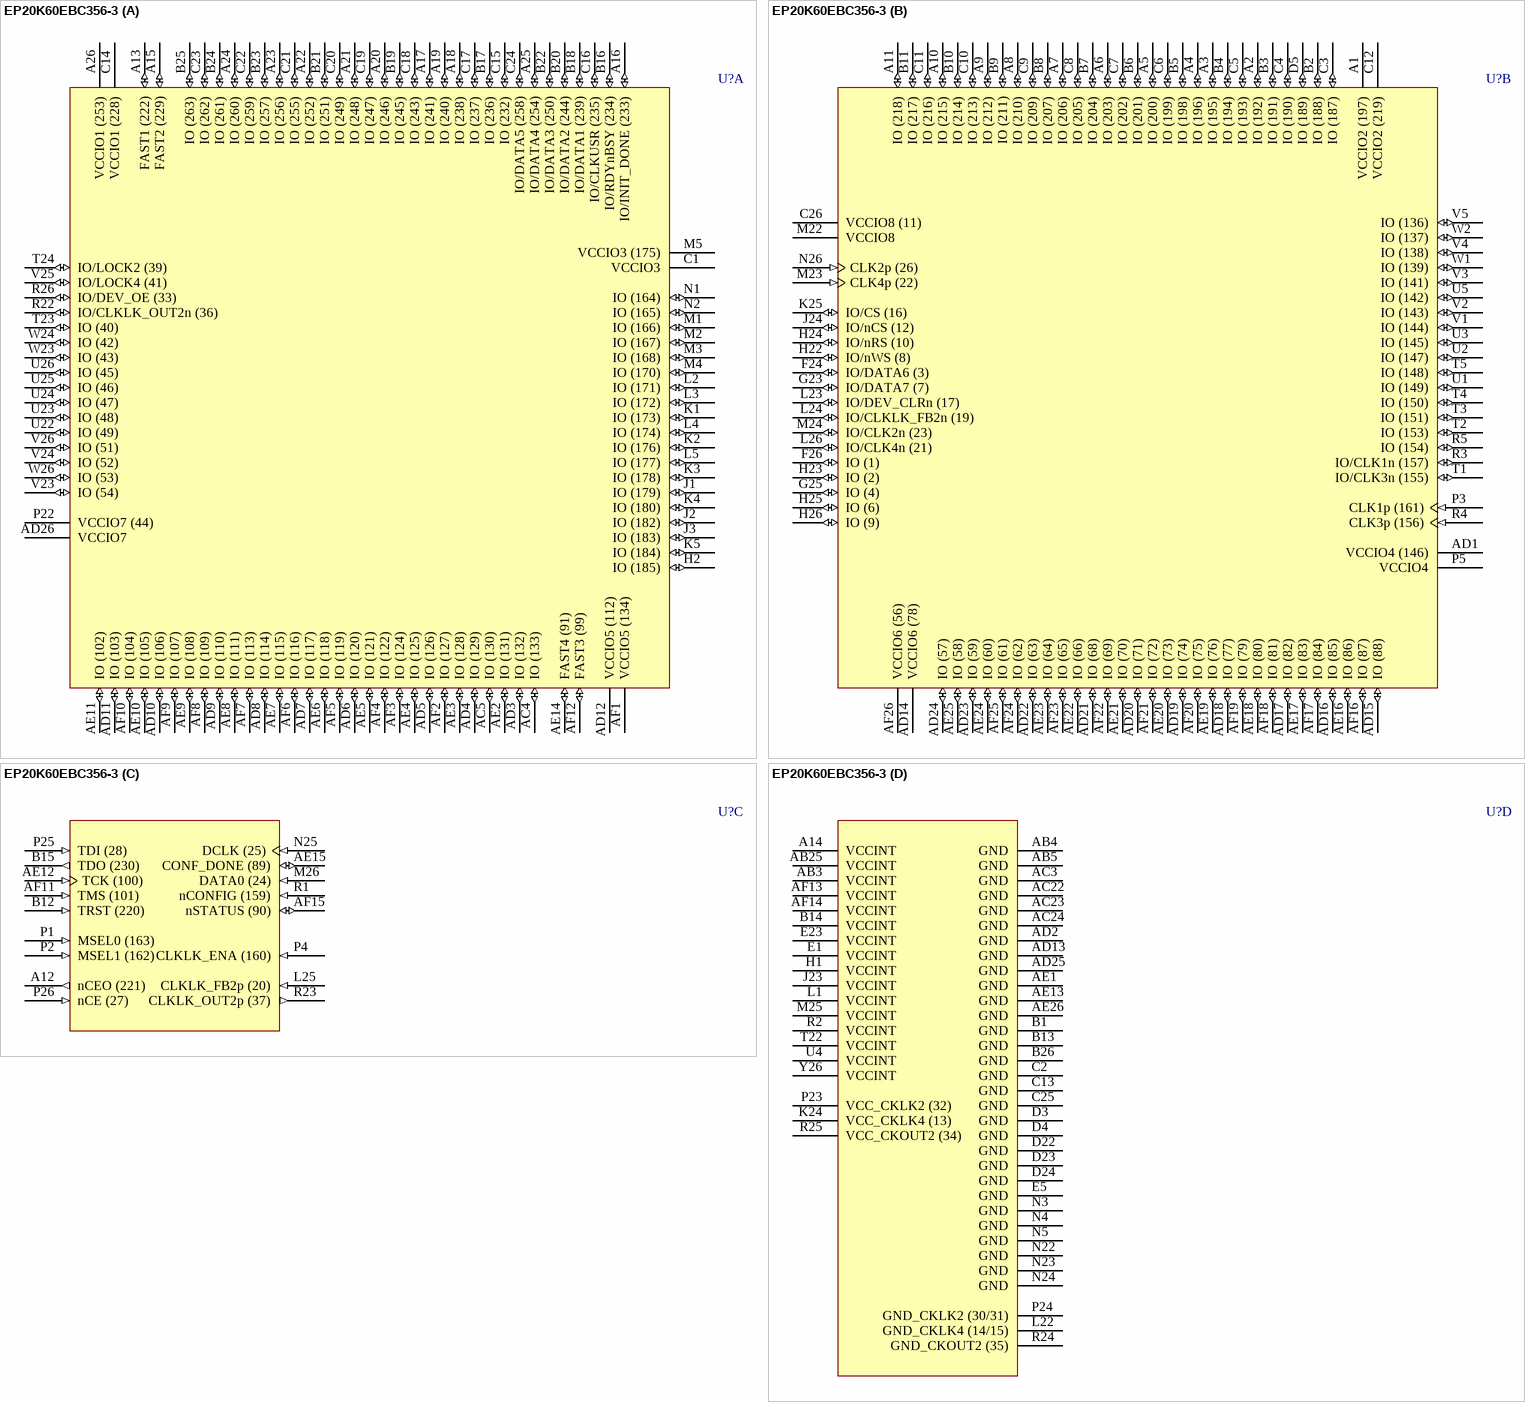
[diagram p30: symbol EP20K60EBC356-3]

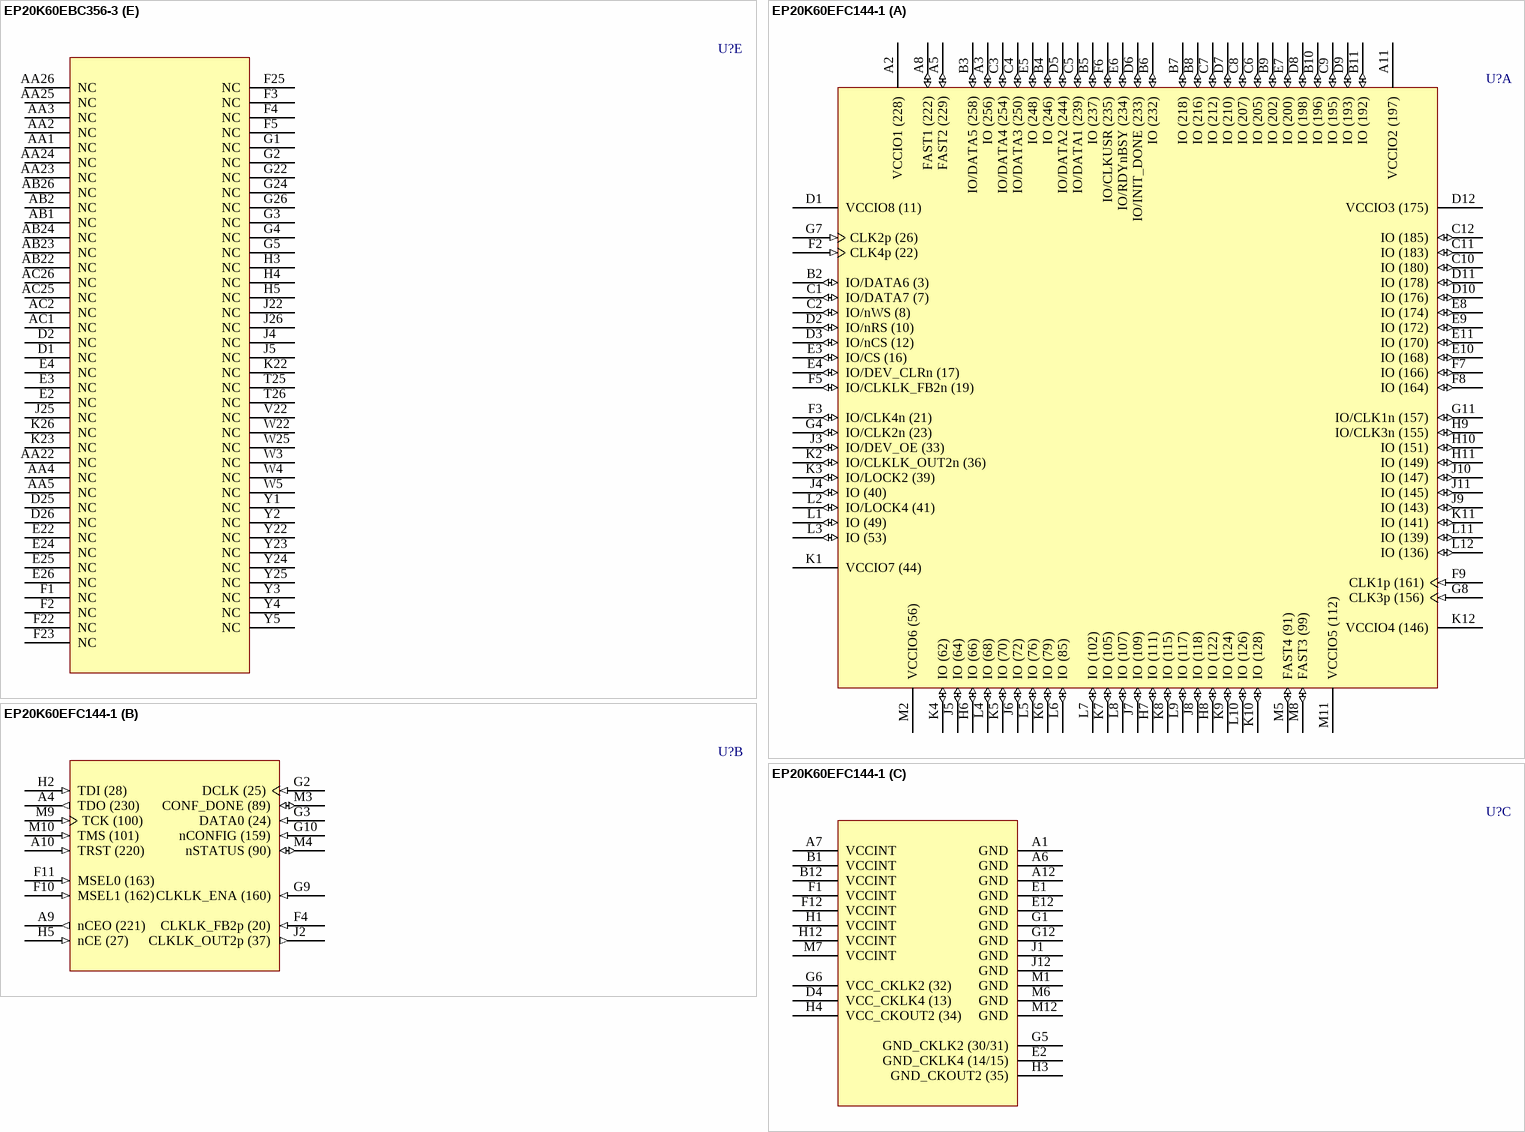
[diagram p31: symbols EP20K60EBC356-3 to EP20K60EFC144-1]

## EP20K60EBC356-3
designator U?
APEX 20K60E PLD, 356-Pin BGA, Commercial Grade, Speed Grade 3; Published: 17-Jul-2002; LatestRevisionDate: 13-Apr-2006; LatestRevisionNote: IPC-7351 Footprint Added.; DatasheetVersion: Mar-2004; PackageVersion: ver14.2, Oct-2005; PackageReference: BGA356; Publisher: Altium Limited; PackageDescription: 356-Ball Ball Grid Array (BGA356); Code_JEDEC: MO-192-BAR-2; ComponentLink1Description: Manufacturer Link; ComponentLink1URL: http://www.altera.com/products/devices/apex/apx-index.html; ComponentLink2Description: Datasheet; ComponentLink2URL: http://www.altera.com/literature/ds/apex.pdf
footprint BGA356 (BGA, 356-Leads, Body 35x35mm, Pitch 1.27mm)
3D model EP20K60E-BGA356 (356-Ball Ball Grid Array (BGA356))
part A pins: A13 FAST1 (222) (io), A15 FAST2 (229) (io), A16 IO/INIT_DONE (233) (io), A17 IO (241) (io), A18 IO (238) (io), A19 IO (240) (io), A20 IO (246) (io), A21 IO (248) (io), A22 IO (252) (io), A23 IO (256) (io), A24 IO (260) (io), A25 IO/DATA4 (254) (io), A26 VCCIO1 (253) (power), AC4 IO (133) (io), AC5 IO (130) (io), AD3 IO (132) (io), AD4 IO (129) (io), AD5 IO (126) (io), AD6 IO (120) (io), AD7 IO (117) (io), AD8 IO (114) (io), AD9 IO (110) (io), AD10 IO (106) (io), AD11 IO (103) (io), AD12 VCCIO5 (112) (power), AD26 VCCIO7 (power), AE2 IO (131) (io), AE3 IO (128) (io), AE4 IO (125) (io), AE5 IO (121) (io), AE6 IO (118) (io), AE7 IO (115) (io), AE8 IO (111) (io), AE9 IO (108) (io), AE10 IO (105) (io), AE11 IO (102) (io), AE14 FAST4 (91) (io), AF1 VCCIO5 (134) (power), AF2 IO (127) (io), AF3 IO (124) (io), AF4 IO (122) (io), AF5 IO (119) (io), AF6 IO (116) (io), AF7 IO (113) (io), AF8 IO (109) (io), AF9 IO (107) (io), AF10 IO (104) (io), AF12 FAST3 (99) (io), B16 IO/RDYnBSY (234) (io), B17 IO (236) (io), B18 IO/DATA1 (239) (io), B19 IO (245) (io), B20 IO/DATA2 (244) (io), B21 IO (251) (io), B22 IO/DATA3 (250) (io), B23 IO (257) (io), B24 IO (261) (io), B25 IO (263) (io), C1 VCCIO3 (power), C14 VCCIO1 (228) (power), C15 IO (232) (io), C16 IO/CLKUSR (235) (io), C17 IO (237) (io), C18 IO (243) (io), C19 IO (247) (io), C20 IO (249) (io), C21 IO (255) (io), C22 IO (259) (io), C23 IO (262) (io), C24 IO/DATA5 (258) (io), H2 IO (185) (io), J1 IO (179) (io), J2 IO (182) (io), J3 IO (183) (io), K1 IO (173) (io), K2 IO (176) (io), K3 IO (178) (io), K4 IO (180) (io), K5 IO (184) (io), L2 IO (171) (io), L3 IO (172) (io), L4 IO (174) (io), L5 IO (177) (io), M1 IO (166) (io), M2 IO (167) (io), M3 IO (168) (io), M4 IO (170) (io), M5 VCCIO3 (175) (power), N1 IO (164) (io), N2 IO (165) (io), P22 VCCIO7 (44) (power), R22 IO/CLKLK_OUT2n (36) (io), R26 IO/DEV_OE (33) (io), T23 IO (40) (io), T24 IO/LOCK2 (39) (io), U22 IO (49) (io), U23 IO (48) (io), U24 IO (47) (io), U25 IO (46) (io), U26 IO (45) (io), V23 IO (54) (io), V24 IO (52) (io), V25 IO/LOCK4 (41) (io), V26 IO (51) (io), W23 IO (43) (io), W24 IO (42) (io), W26 IO (53) (io)
part B pins: A1 VCCIO2 (197) (power), A2 IO (192) (io), A3 IO (195) (io), A4 IO (196) (io), A5 IO (200) (io), A6 IO (203) (io), A7 IO (206) (io), A8 IO (210) (io), A9 IO (212) (io), A10 IO (215) (io), A11 IO (218) (io), AD1 VCCIO4 (146) (power), AD14 VCCIO6 (78) (power), AD15 IO (88) (io), AD16 IO (85) (io), AD17 IO (82) (io), AD18 IO (77) (io), AD19 IO (74) (io), AD20 IO (71) (io), AD21 IO (68) (io), AD22 IO (63) (io), AD23 IO (59) (io), AD24 IO (57) (io), AE16 IO (86) (io), AE17 IO (83) (io), AE18 IO (80) (io), AE19 IO (76) (io), AE20 IO (73) (io), AE21 IO (70) (io), AE22 IO (66) (io), AE23 IO (64) (io), AE24 IO (60) (io), AE25 IO (58) (io), AF16 IO (87) (io), AF17 IO (84) (io), AF18 IO (81) (io), AF19 IO (79) (io), AF20 IO (75) (io), AF21 IO (72) (io), AF22 IO (69) (io), AF23 IO (65) (io), AF24 IO (62) (io), AF25 IO (61) (io), AF26 VCCIO6 (56) (power), B2 IO (188) (io), B3 IO (191) (io), B4 IO (194) (io), B5 IO (198) (io), B6 IO (201) (io), B7 IO (204) (io), B8 IO (207) (io), B9 IO (211) (io), B10 IO (214) (io), B11 IO (217) (io), C3 IO (187) (io), C4 IO (190) (io), C5 IO (193) (io), C6 IO (199) (io), C7 IO (202) (io), C8 IO (205) (io), C9 IO (209) (io), C10 IO (213) (io), C11 IO (216) (io), C12 VCCIO2 (219) (power), C26 VCCIO8 (11) (power), D5 IO (189) (io), F24 IO/DATA6 (3) (io), F26 IO (1) (io), G23 IO/DATA7 (7) (io), G25 IO (4) (io), H22 IO/nWS (8) (io), H23 IO (2) (io), H24 IO/nRS (10) (io), H25 IO (6) (io), H26 IO (9) (io), J24 IO/nCS (12) (io), K25 IO/CS (16) (io), L23 IO/DEV_CLRn (17) (io), L24 IO/CLKLK_FB2n (19) (io), L26 IO/CLK4n (21) (io), M22 VCCIO8 (power), M23 CLK4p (22) (in), M24 IO/CLK2n (23) (io), N26 CLK2p (26) (in), P3 CLK1p (161) (in), P5 VCCIO4 (power), R3 IO/CLK1n (157) (io), R4 CLK3p (156) (in), R5 IO (154) (io), T1 IO/CLK3n (155) (io), T2 IO (153) (io), T3 IO (151) (io), T4 IO (150) (io), T5 IO (148) (io), U1 IO (149) (io), U2 IO (147) (io), U3 IO (145) (io), U5 IO (142) (io), V1 IO (144) (io), V2 IO (143) (io), V3 IO (141) (io), V4 IO (138) (io), V5 IO (136) (io), W1 IO (139) (io), W2 IO (137) (io)
part C pins: A12 nCEO (221) (out), AE12 TCK (100) (in), AE15 CONF_DONE (89) (io), AF11 TMS (101) (in), AF15 nSTATUS (90) (io), B12 TRST (220) (in), B15 TDO (230) (out), L25 CLKLK_FB2p (20) (in), M26 DATA0 (24) (in), N25 DCLK (25) (in), P1 MSEL0 (163) (in), P2 MSEL1 (162) (in), P4 CLKLK_ENA (160) (in), P25 TDI (28) (in), P26 nCE (27) (in), R1 nCONFIG (159) (in), R23 CLKLK_OUT2p (37) (out)
part D pins: A14 VCCINT (power), AB3 VCCINT (power), AB4 GND (power), AB5 GND (power), AB25 VCCINT (power), AC3 GND (power), AC22 GND (power), AC23 GND (power), AC24 GND (power), AD2 GND (power), AD13 GND (power), AD25 GND (power), AE1 GND (power), AE13 GND (power), AE26 GND (power), AF13 VCCINT (power), AF14 VCCINT (power), B1 GND (power), B13 GND (power), B14 VCCINT (power), B26 GND (power), C2 GND (power), C13 GND (power), C25 GND (power), D3 GND (power), D4 GND (power), D22 GND (power), D23 GND (power), D24 GND (power), E1 VCCINT (power), E5 GND (power), E23 VCCINT (power), H1 VCCINT (power), J23 VCCINT (power), K24 VCC_CKLK4 (13) (power), L1 VCCINT (power), L22 GND_CKLK4 (14/15) (power), M25 VCCINT (power), N3 GND (power), N4 GND (power), N5 GND (power), N22 GND (power), N23 GND (power), N24 GND (power), P23 VCC_CKLK2 (32) (power), P24 GND_CKLK2 (30/31) (power), R2 VCCINT (power), R24 GND_CKOUT2 (35) (power), R25 VCC_CKOUT2 (34) (power), T22 VCCINT (power), U4 VCCINT (power), Y26 VCCINT (power)
part E pins: AA1 NC, AA2 NC, AA3 NC, AA4 NC, AA5 NC, AA22 NC, AA23 NC, AA24 NC, AA25 NC, AA26 NC, AB1 NC, AB2 NC, AB22 NC, AB23 NC, AB24 NC, AB26 NC, AC1 NC, AC2 NC, AC25 NC, AC26 NC, D1 NC, D2 NC, D25 NC, D26 NC, E2 NC, E3 NC, E4 NC, E22 NC, E24 NC, E25 NC, E26 NC, F1 NC, F2 NC, F3 NC, F4 NC, F5 NC, F22 NC, F23 NC, F25 NC, G1 NC, G2 NC, G3 NC, G4 NC, G5 NC, G22 NC, G24 NC, G26 NC, H3 NC, H4 NC, H5 NC, J4 NC, J5 NC, J22 NC, J25 NC, J26 NC, K22 NC, K23 NC, K26 NC, T25 NC, T26 NC, V22 NC, W3 NC, W4 NC, W5 NC, W22 NC, W25 NC, Y1 NC, Y2 NC, Y3 NC, Y4 NC, Y5 NC, Y22 NC, Y23 NC, Y24 NC, Y25 NC

## EP20K60EFC144-1
designator U?
APEX 20K60E PLD, 144-Pin FBGA, Commercial Grade, Speed Grade 1; Published: 17-Jul-2002; LatestRevisionDate: 13-Apr-2006; LatestRevisionNote: IPC-7351 Footprint Added.; DatasheetVersion: Mar-2004; PackageVersion: ver15.1, May-2008; PackageReference: FBGA144; Publisher: Altium Limited; PackageDescription: 144-Ball FineLine Ball Grid Array (FBGA144) - Wire Bond; Code_JEDEC: MO-192-AAD-1; Code_IPC: BGA100P12X12-144; ComponentLink1Description: Manufacturer Link; ComponentLink1URL: http://www.altera.com/products/devices/apex/apx-index.html; ComponentLink2Description: Datasheet; ComponentLink2URL: http://www.altera.com/literature/ds/apex.pdf
footprint FBGA144 (BGA, 144-Leads, Body 13x13mm, Pitch 1mm)
3D model EP20K60E-FBGA144 (144-Ball FineLine Ball Grid Array (FBGA144) - Wire Bond)
part A pins: A2 VCCIO1 (228) (power), A3 IO (256) (io), A5 FAST2 (229) (io), A8 FAST1 (222) (io), A11 VCCIO2 (197) (power), B2 IO/DATA6 (3) (io), B3 IO/DATA5 (258) (io), B4 IO (246) (io), B5 IO (237) (io), B6 IO (232) (io), B7 IO (218) (io), B8 IO (216) (io), B9 IO (202) (io), B10 IO (196) (io), B11 IO (192) (io), C1 IO/DATA7 (7) (io), C2 IO/nWS (8) (io), C3 IO/DATA4 (254) (io), C4 IO/DATA3 (250) (io), C5 IO/DATA1 (239) (io), C6 IO (205) (io), C7 IO (212) (io), C8 IO (207) (io), C9 IO (195) (io), C10 IO (180) (io), C11 IO (183) (io), C12 IO (185) (io), D1 VCCIO8 (11) (power), D2 IO/nRS (10) (io), D3 IO/nCS (12) (io), D5 IO/DATA2 (244) (io), D6 IO/INIT_DONE (233) (io), D7 IO (210) (io), D8 IO (198) (io), D9 IO (193) (io), D10 IO (176) (io), D11 IO (178) (io), D12 VCCIO3 (175) (power), E3 IO/CS (16) (io), E4 IO/DEV_CLRn (17) (io), E5 IO (248) (io), E6 IO/RDYnBSY (234) (io), E7 IO (200) (io), E8 IO (174) (io), E9 IO (172) (io), E10 IO (168) (io), E11 IO (170) (io), F2 CLK4p (22) (in), F3 IO/CLK4n (21) (io), F5 IO/CLKLK_FB2n (19) (io), F6 IO/CLKUSR (235) (io), F7 IO (166) (io), F8 IO (164) (io), F9 CLK1p (161) (in), G4 IO/CLK2n (23) (io), G7 CLK2p (26) (in), G8 CLK3p (156) (in), G11 IO/CLK1n (157) (io), H6 IO (66) (io), H7 IO (111) (io), H8 IO (122) (io), H9 IO/CLK3n (155) (io), H10 IO (151) (io), H11 IO (149) (io), J3 IO/DEV_OE (33) (io), J4 IO (40) (io), J5 IO (64) (io), J6 IO (72) (io), J7 IO (109) (io), J8 IO (118) (io), J9 IO (143) (io), J10 IO (147) (io), J11 IO (145) (io), K1 VCCIO7 (44) (power), K2 IO/CLKLK_OUT2n (36) (io), K3 IO/LOCK2 (39) (io), K4 IO (62) (io), K5 IO (70) (io), K6 IO (79) (io), K7 IO (105) (io), K8 IO (115) (io), K9 IO (124) (io), K10 IO (128) (io), K11 IO (141) (io), K12 VCCIO4 (146) (power), L1 IO (49) (io), L2 IO/LOCK4 (41) (io), L3 IO (53) (io), L4 IO (68) (io), L5 IO (76) (io), L6 IO (85) (io), L7 IO (102) (io), L8 IO (107) (io), L9 IO (117) (io), L10 IO (126) (io), L11 IO (139) (io), L12 IO (136) (io), M2 VCCIO6 (56) (power), M5 FAST4 (91) (io), M8 FAST3 (99) (io), M11 VCCIO5 (112) (power)
part B pins: A4 TDO (230) (out), A9 nCEO (221) (out), A10 TRST (220) (in), F4 CLKLK_FB2p (20) (in), F10 MSEL1 (162) (in), F11 MSEL0 (163) (in), G2 DCLK (25) (in), G3 DATA0 (24) (in), G9 CLKLK_ENA (160) (in), G10 nCONFIG (159) (in), H2 TDI (28) (in), H5 nCE (27) (in), J2 CLKLK_OUT2p (37) (out), M3 CONF_DONE (89) (io), M4 nSTATUS (90) (io), M9 TCK (100) (in), M10 TMS (101) (in)
part C pins: A1 GND (power), A6 GND (power), A7 VCCINT (power), A12 GND (power), B1 VCCINT (power), B12 VCCINT (power), D4 VCC_CKLK4 (13) (power), E1 GND (power), E2 GND_CKLK4 (14/15) (power), E12 GND (power), F1 VCCINT (power), F12 VCCINT (power), G1 GND (power), G5 GND_CKLK2 (30/31) (power), G6 VCC_CKLK2 (32) (power), G12 GND (power), H1 VCCINT (power), H3 GND_CKOUT2 (35) (power), H4 VCC_CKOUT2 (34) (power), H12 VCCINT (power), J1 GND (power), J12 GND (power), M1 GND (power), M6 GND (power), M7 VCCINT (power), M12 GND (power)

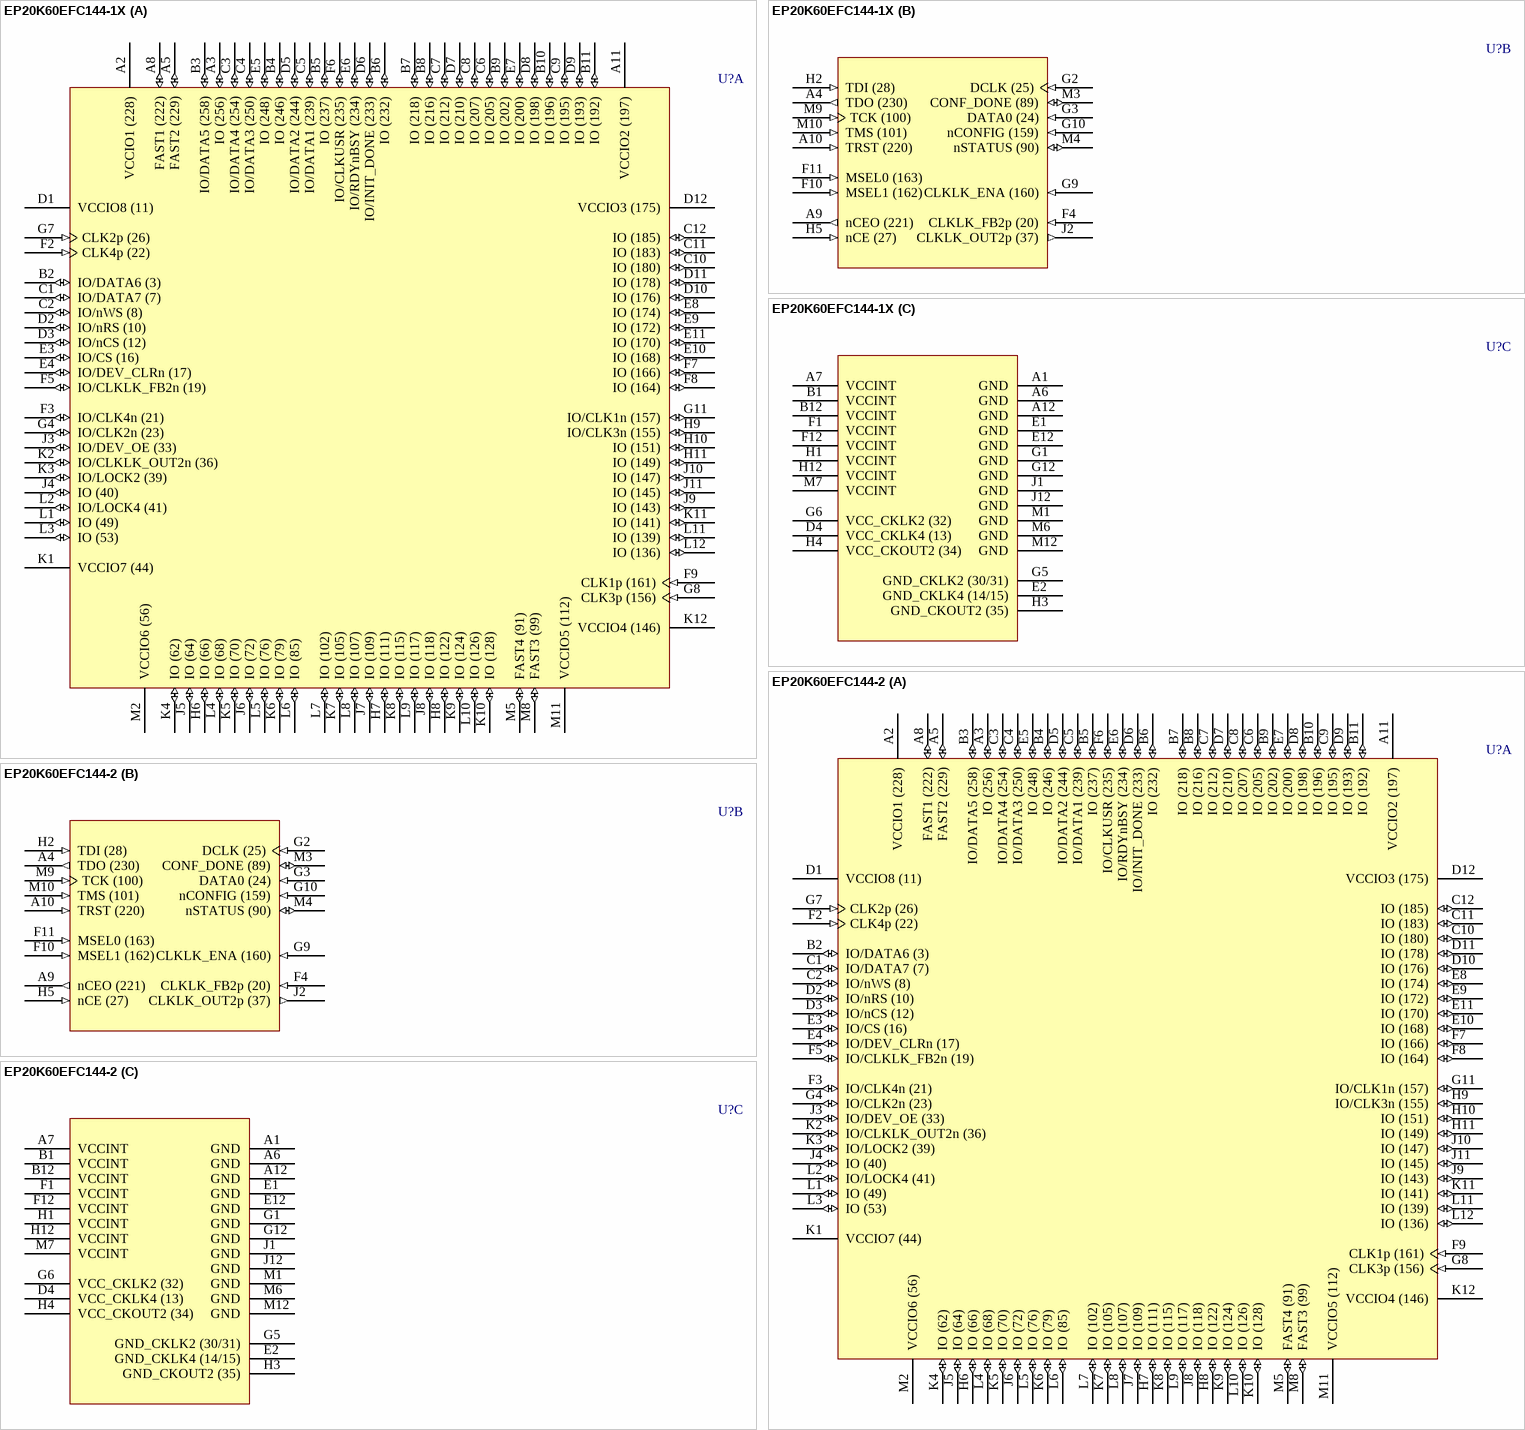
[diagram p32: symbols EP20K60EFC144-1X to EP20K60EFC144-2]

## EP20K60EFC144-1X
designator U?
APEX 20K60E PLD with PLLs and LVDS, 144-Pin FBGA, Commercial Grade, Speed Grade 1; Published: 17-Jul-2002; LatestRevisionDate: 13-Apr-2006; LatestRevisionNote: IPC-7351 Footprint Added.; DatasheetVersion: Mar-2004; PackageVersion: ver15.1, May-2008; PackageReference: FBGA144; Publisher: Altium Limited; PackageDescription: 144-Ball FineLine Ball Grid Array (FBGA144) - Wire Bond; Code_JEDEC: MO-192-AAD-1; Code_IPC: BGA100P12X12-144; ComponentLink1Description: Manufacturer Link; ComponentLink1URL: http://www.altera.com/products/devices/apex/apx-index.html; ComponentLink2Description: Datasheet; ComponentLink2URL: http://www.altera.com/literature/ds/apex.pdf
footprint FBGA144 (BGA, 144-Leads, Body 13x13mm, Pitch 1mm)
3D model EP20K60E-FBGA144 (144-Ball FineLine Ball Grid Array (FBGA144) - Wire Bond)
part A pins: A2 VCCIO1 (228) (power), A3 IO (256) (io), A5 FAST2 (229) (io), A8 FAST1 (222) (io), A11 VCCIO2 (197) (power), B2 IO/DATA6 (3) (io), B3 IO/DATA5 (258) (io), B4 IO (246) (io), B5 IO (237) (io), B6 IO (232) (io), B7 IO (218) (io), B8 IO (216) (io), B9 IO (202) (io), B10 IO (196) (io), B11 IO (192) (io), C1 IO/DATA7 (7) (io), C2 IO/nWS (8) (io), C3 IO/DATA4 (254) (io), C4 IO/DATA3 (250) (io), C5 IO/DATA1 (239) (io), C6 IO (205) (io), C7 IO (212) (io), C8 IO (207) (io), C9 IO (195) (io), C10 IO (180) (io), C11 IO (183) (io), C12 IO (185) (io), D1 VCCIO8 (11) (power), D2 IO/nRS (10) (io), D3 IO/nCS (12) (io), D5 IO/DATA2 (244) (io), D6 IO/INIT_DONE (233) (io), D7 IO (210) (io), D8 IO (198) (io), D9 IO (193) (io), D10 IO (176) (io), D11 IO (178) (io), D12 VCCIO3 (175) (power), E3 IO/CS (16) (io), E4 IO/DEV_CLRn (17) (io), E5 IO (248) (io), E6 IO/RDYnBSY (234) (io), E7 IO (200) (io), E8 IO (174) (io), E9 IO (172) (io), E10 IO (168) (io), E11 IO (170) (io), F2 CLK4p (22) (in), F3 IO/CLK4n (21) (io), F5 IO/CLKLK_FB2n (19) (io), F6 IO/CLKUSR (235) (io), F7 IO (166) (io), F8 IO (164) (io), F9 CLK1p (161) (in), G4 IO/CLK2n (23) (io), G7 CLK2p (26) (in), G8 CLK3p (156) (in), G11 IO/CLK1n (157) (io), H6 IO (66) (io), H7 IO (111) (io), H8 IO (122) (io), H9 IO/CLK3n (155) (io), H10 IO (151) (io), H11 IO (149) (io), J3 IO/DEV_OE (33) (io), J4 IO (40) (io), J5 IO (64) (io), J6 IO (72) (io), J7 IO (109) (io), J8 IO (118) (io), J9 IO (143) (io), J10 IO (147) (io), J11 IO (145) (io), K1 VCCIO7 (44) (power), K2 IO/CLKLK_OUT2n (36) (io), K3 IO/LOCK2 (39) (io), K4 IO (62) (io), K5 IO (70) (io), K6 IO (79) (io), K7 IO (105) (io), K8 IO (115) (io), K9 IO (124) (io), K10 IO (128) (io), K11 IO (141) (io), K12 VCCIO4 (146) (power), L1 IO (49) (io), L2 IO/LOCK4 (41) (io), L3 IO (53) (io), L4 IO (68) (io), L5 IO (76) (io), L6 IO (85) (io), L7 IO (102) (io), L8 IO (107) (io), L9 IO (117) (io), L10 IO (126) (io), L11 IO (139) (io), L12 IO (136) (io), M2 VCCIO6 (56) (power), M5 FAST4 (91) (io), M8 FAST3 (99) (io), M11 VCCIO5 (112) (power)
part B pins: A4 TDO (230) (out), A9 nCEO (221) (out), A10 TRST (220) (in), F4 CLKLK_FB2p (20) (in), F10 MSEL1 (162) (in), F11 MSEL0 (163) (in), G2 DCLK (25) (in), G3 DATA0 (24) (in), G9 CLKLK_ENA (160) (in), G10 nCONFIG (159) (in), H2 TDI (28) (in), H5 nCE (27) (in), J2 CLKLK_OUT2p (37) (out), M3 CONF_DONE (89) (io), M4 nSTATUS (90) (io), M9 TCK (100) (in), M10 TMS (101) (in)
part C pins: A1 GND (power), A6 GND (power), A7 VCCINT (power), A12 GND (power), B1 VCCINT (power), B12 VCCINT (power), D4 VCC_CKLK4 (13) (power), E1 GND (power), E2 GND_CKLK4 (14/15) (power), E12 GND (power), F1 VCCINT (power), F12 VCCINT (power), G1 GND (power), G5 GND_CKLK2 (30/31) (power), G6 VCC_CKLK2 (32) (power), G12 GND (power), H1 VCCINT (power), H3 GND_CKOUT2 (35) (power), H4 VCC_CKOUT2 (34) (power), H12 VCCINT (power), J1 GND (power), J12 GND (power), M1 GND (power), M6 GND (power), M7 VCCINT (power), M12 GND (power)

## EP20K60EFC144-2
designator U?
APEX 20K60E PLD, 144-Pin FBGA, Commercial Grade, Speed Grade 2; Published: 17-Jul-2002; LatestRevisionDate: 13-Apr-2006; LatestRevisionNote: IPC-7351 Footprint Added.; DatasheetVersion: Mar-2004; PackageVersion: ver15.1, May-2008; PackageReference: FBGA144; Publisher: Altium Limited; PackageDescription: 144-Ball FineLine Ball Grid Array (FBGA144) - Wire Bond; Code_JEDEC: MO-192-AAD-1; Code_IPC: BGA100P12X12-144; ComponentLink1Description: Manufacturer Link; ComponentLink1URL: http://www.altera.com/products/devices/apex/apx-index.html; ComponentLink2Description: Datasheet; ComponentLink2URL: http://www.altera.com/literature/ds/apex.pdf
footprint FBGA144 (BGA, 144-Leads, Body 13x13mm, Pitch 1mm)
3D model EP20K60E-FBGA144 (144-Ball FineLine Ball Grid Array (FBGA144) - Wire Bond)
part A pins: A2 VCCIO1 (228) (power), A3 IO (256) (io), A5 FAST2 (229) (io), A8 FAST1 (222) (io), A11 VCCIO2 (197) (power), B2 IO/DATA6 (3) (io), B3 IO/DATA5 (258) (io), B4 IO (246) (io), B5 IO (237) (io), B6 IO (232) (io), B7 IO (218) (io), B8 IO (216) (io), B9 IO (202) (io), B10 IO (196) (io), B11 IO (192) (io), C1 IO/DATA7 (7) (io), C2 IO/nWS (8) (io), C3 IO/DATA4 (254) (io), C4 IO/DATA3 (250) (io), C5 IO/DATA1 (239) (io), C6 IO (205) (io), C7 IO (212) (io), C8 IO (207) (io), C9 IO (195) (io), C10 IO (180) (io), C11 IO (183) (io), C12 IO (185) (io), D1 VCCIO8 (11) (power), D2 IO/nRS (10) (io), D3 IO/nCS (12) (io), D5 IO/DATA2 (244) (io), D6 IO/INIT_DONE (233) (io), D7 IO (210) (io), D8 IO (198) (io), D9 IO (193) (io), D10 IO (176) (io), D11 IO (178) (io), D12 VCCIO3 (175) (power), E3 IO/CS (16) (io), E4 IO/DEV_CLRn (17) (io), E5 IO (248) (io), E6 IO/RDYnBSY (234) (io), E7 IO (200) (io), E8 IO (174) (io), E9 IO (172) (io), E10 IO (168) (io), E11 IO (170) (io), F2 CLK4p (22) (in), F3 IO/CLK4n (21) (io), F5 IO/CLKLK_FB2n (19) (io), F6 IO/CLKUSR (235) (io), F7 IO (166) (io), F8 IO (164) (io), F9 CLK1p (161) (in), G4 IO/CLK2n (23) (io), G7 CLK2p (26) (in), G8 CLK3p (156) (in), G11 IO/CLK1n (157) (io), H6 IO (66) (io), H7 IO (111) (io), H8 IO (122) (io), H9 IO/CLK3n (155) (io), H10 IO (151) (io), H11 IO (149) (io), J3 IO/DEV_OE (33) (io), J4 IO (40) (io), J5 IO (64) (io), J6 IO (72) (io), J7 IO (109) (io), J8 IO (118) (io), J9 IO (143) (io), J10 IO (147) (io), J11 IO (145) (io), K1 VCCIO7 (44) (power), K2 IO/CLKLK_OUT2n (36) (io), K3 IO/LOCK2 (39) (io), K4 IO (62) (io), K5 IO (70) (io), K6 IO (79) (io), K7 IO (105) (io), K8 IO (115) (io), K9 IO (124) (io), K10 IO (128) (io), K11 IO (141) (io), K12 VCCIO4 (146) (power), L1 IO (49) (io), L2 IO/LOCK4 (41) (io), L3 IO (53) (io), L4 IO (68) (io), L5 IO (76) (io), L6 IO (85) (io), L7 IO (102) (io), L8 IO (107) (io), L9 IO (117) (io), L10 IO (126) (io), L11 IO (139) (io), L12 IO (136) (io), M2 VCCIO6 (56) (power), M5 FAST4 (91) (io), M8 FAST3 (99) (io), M11 VCCIO5 (112) (power)
part B pins: A4 TDO (230) (out), A9 nCEO (221) (out), A10 TRST (220) (in), F4 CLKLK_FB2p (20) (in), F10 MSEL1 (162) (in), F11 MSEL0 (163) (in), G2 DCLK (25) (in), G3 DATA0 (24) (in), G9 CLKLK_ENA (160) (in), G10 nCONFIG (159) (in), H2 TDI (28) (in), H5 nCE (27) (in), J2 CLKLK_OUT2p (37) (out), M3 CONF_DONE (89) (io), M4 nSTATUS (90) (io), M9 TCK (100) (in), M10 TMS (101) (in)
part C pins: A1 GND (power), A6 GND (power), A7 VCCINT (power), A12 GND (power), B1 VCCINT (power), B12 VCCINT (power), D4 VCC_CKLK4 (13) (power), E1 GND (power), E2 GND_CKLK4 (14/15) (power), E12 GND (power), F1 VCCINT (power), F12 VCCINT (power), G1 GND (power), G5 GND_CKLK2 (30/31) (power), G6 VCC_CKLK2 (32) (power), G12 GND (power), H1 VCCINT (power), H3 GND_CKOUT2 (35) (power), H4 VCC_CKOUT2 (34) (power), H12 VCCINT (power), J1 GND (power), J12 GND (power), M1 GND (power), M6 GND (power), M7 VCCINT (power), M12 GND (power)

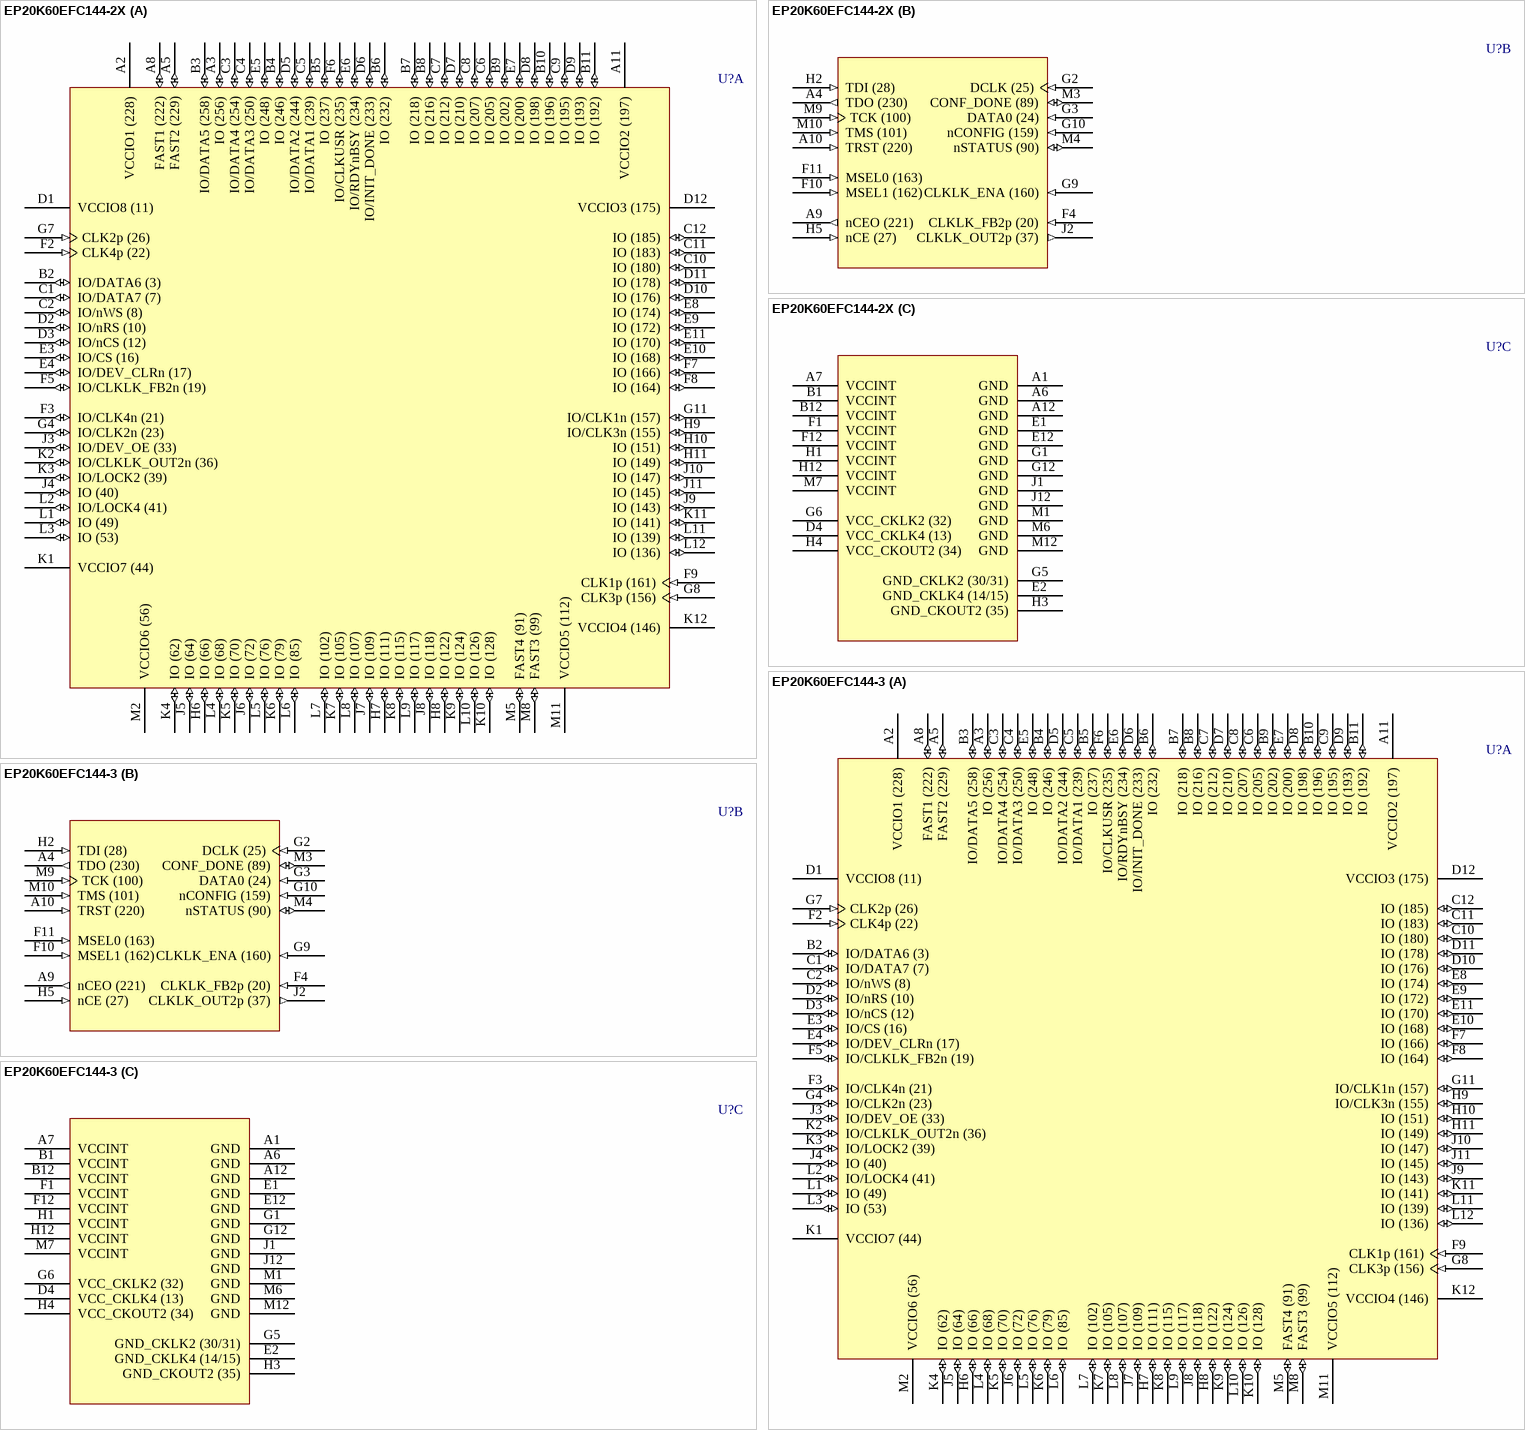
[diagram p33: symbols EP20K60EFC144-2X to EP20K60EFC144-3]